# Altium schematic symbol library Lib_001.SchLib: 489 symbols (part 4 of 4)
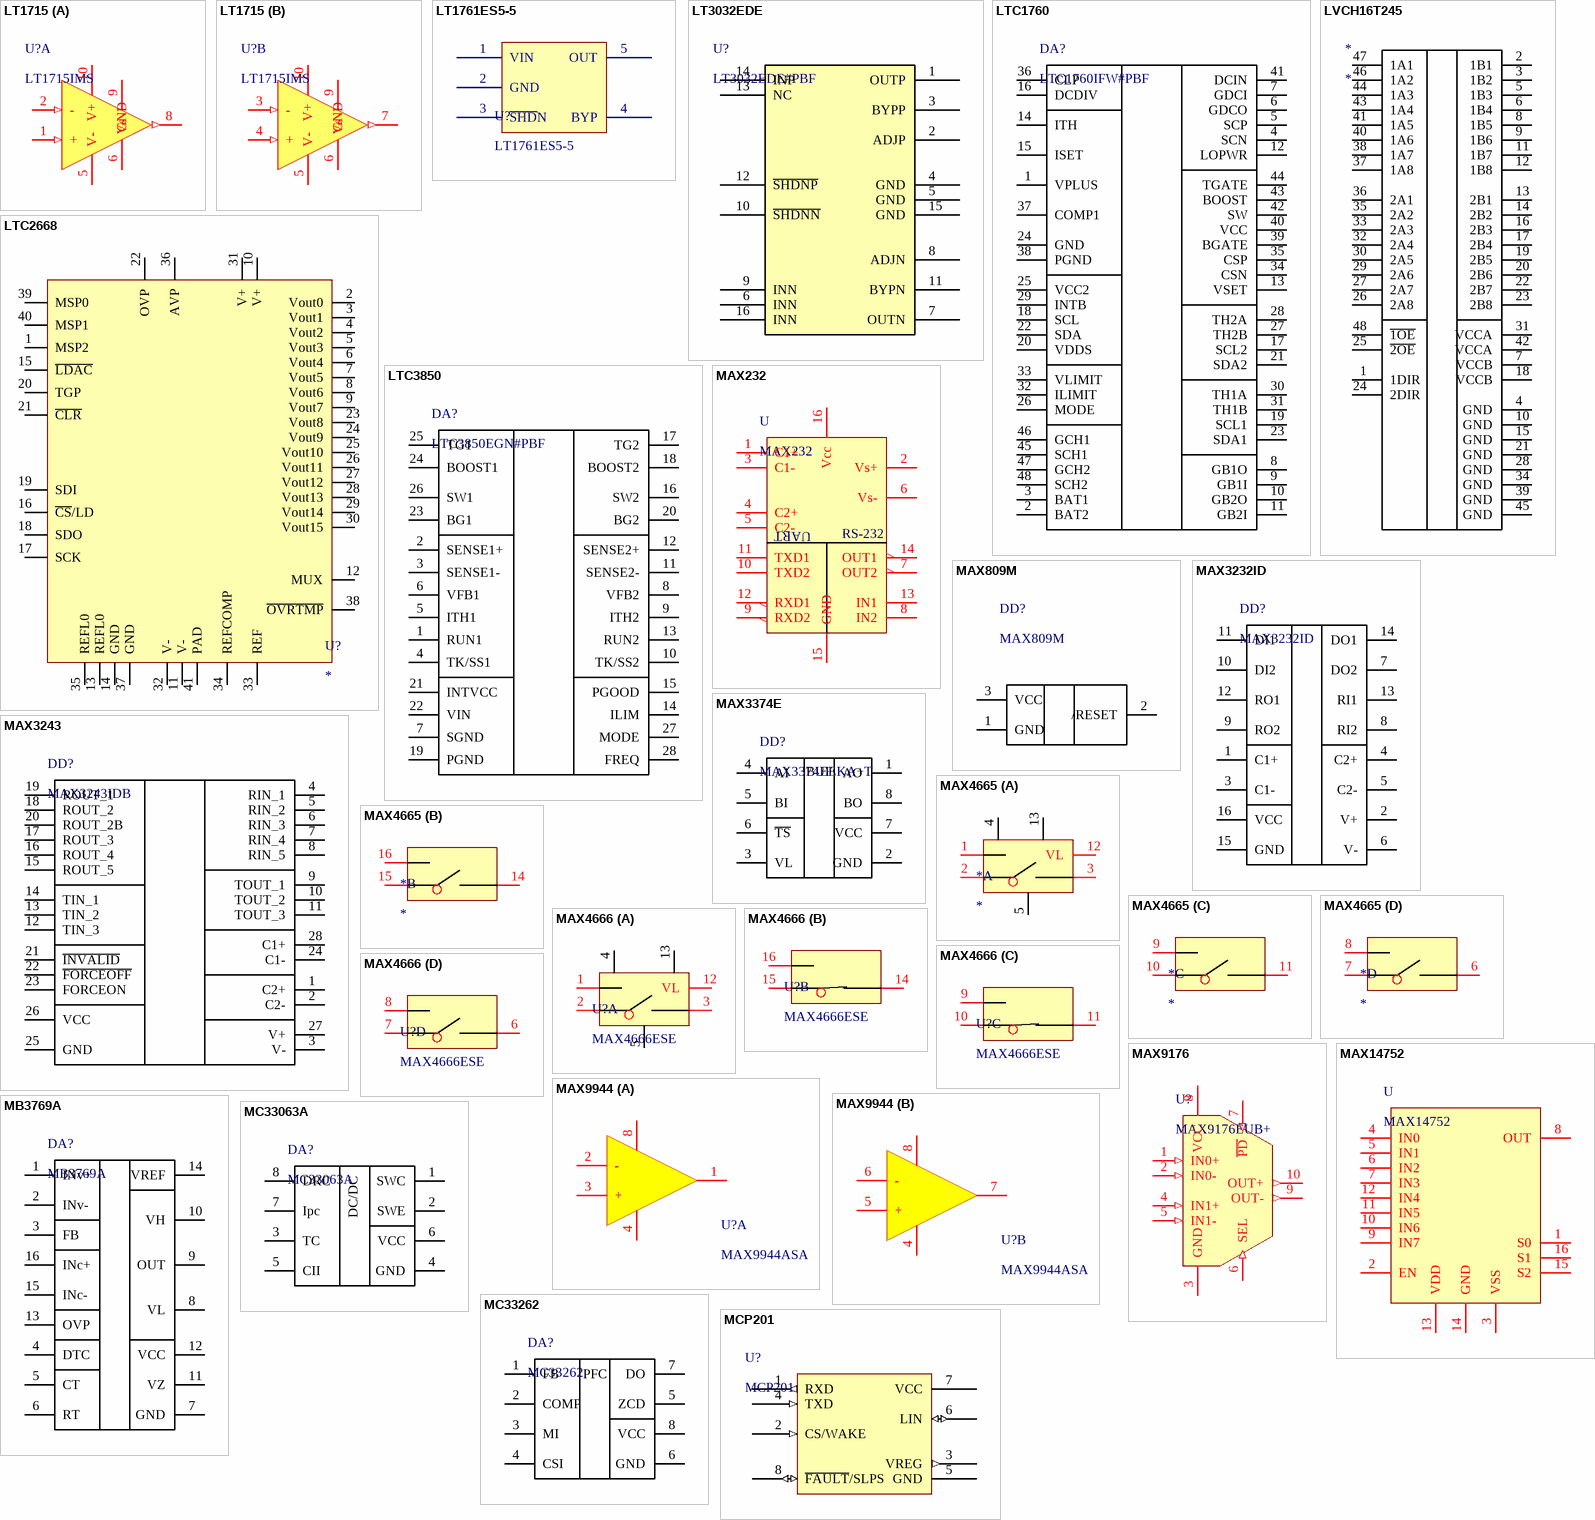
[diagram p39: symbols LT1715 to MCP201]

## MAX3374E
designator DD?, comment MAX3374EEKA+T
value: MAX3374EEKA+T
footprint SOT23-8 (Footprint not found)
pins: 1 AO, 2 GND, 3 VL, 4 AI, 5 BI, 6 ~{TS}, 7 VCC, 8 BO
text: BUF

## MAX4665
designator *
part A pins: 1 IN1, 2 COM1, 3 NO1, 4 V-, 5 GND, 12 VL, 13 V+
part B pins: 14 NO2, 15 COM2, 16 IN2
part C pins: 9 IN3, 10 COM3, 11 NO3
part D pins: 6 NO4, 7 COM4, 8 IN4

## MAX4666
designator U?, comment MAX4666ESE
5  Om  , Quad, SPST,  CMOS Analog Switches; value: MAX4666ESE
footprint SO16
part A pins: 1 IN1, 2 COM1, 3 NO1, 4 V-, 5 GND, 12 VL, 13 V+
part B pins: 14 NO2, 15 COM2, 16 IN2
part C pins: 9 IN3, 10 COM3, 11 NO3
part D pins: 6 NO4, 7 COM4, 8 IN4

## MAX9176
designator U?, comment MAX9176EUB+
670MHz LVDS-to-LVDS 2:1 Multiplexer; value: MAX9176EUB+
footprint uSOP 10
pins: 1 IN0+ (in), 2 IN0- (in), 3 GND (power), 4 IN1+ (in), 5 IN1- (in), 6 SEL (in), 7 ~{PD} (in), 8 VCC (power), 9 OUT- (out), 10 OUT+ (out)

## MAX9944
designator U?, comment MAX9944ASA
SO8: MAX9944ASA
footprint SO8 (SOIC, 8-Leads, Body 4.9x3.9mm, Pitch 1.27mm, IPC Medium Density)
part A pins: 1 OUT, 2 -, 3 +, 4 Vee, 8 Vcc
part B pins: 4 Vee hidden, 4 Vee, 5 +, 6 -, 7 OUT, 8 Vcc hidden, 8 Vcc

## MAX14752
designator U
footprint TSSOP16
pins: 1 S0, 2 EN, 3 VSS, 4 IN0, 5 IN1, 6 IN2, 7 IN3, 8 OUT, 9 IN7, 10 IN6, 11 IN5, 12 IN4, 13 VDD, 14 GND, 15 S2, 16 S1

## MB3769A
designator DA?
value: MB3769A
pins: 1 INv+, 2 INv-, 3 FB, 4 DTC, 5 CT, 6 RT, 7 GND, 8 VL, 9 OUT, 10 VH, 11 VZ, 12 VCC, 13 OVP, 14 VREF, 15 INc-, 16 INc+

## MC33063A
designator DA?
Step-Up/Down/  Inverting Switching  Regulators; value: MC33063A
footprint DIP8_300mil
footprint SOIC8
pins: 1 SWC, 2 SWE, 3 TC, 4 GND, 5 CII, 6 VCC, 7 Ipc, 8 DRC
text: DC/DC

## MC33262
designator DA?
Power Factor Controller; value: MC33262
footprint SO8 (SOIC, 8-Leads, Body 4.9x3.9mm, Pitch 1.27mm, IPC Medium Density)
pins: 1 FB, 2 COMP, 3 MI, 4 CSI, 5 ZCD, 6 GND, 7 DO, 8 VCC
text: PFC

## MCP201
designator U?
LIN Transceiver; value: MCP201
footprint SOIC8
pins: 1 RXD (out), 2 CS/WAKE (in), 3 VREG (out), 4 TXD (in), 5 GND, 6 LIN (io), 7 VCC, 8 ~{FAULT}/SLPS (io)

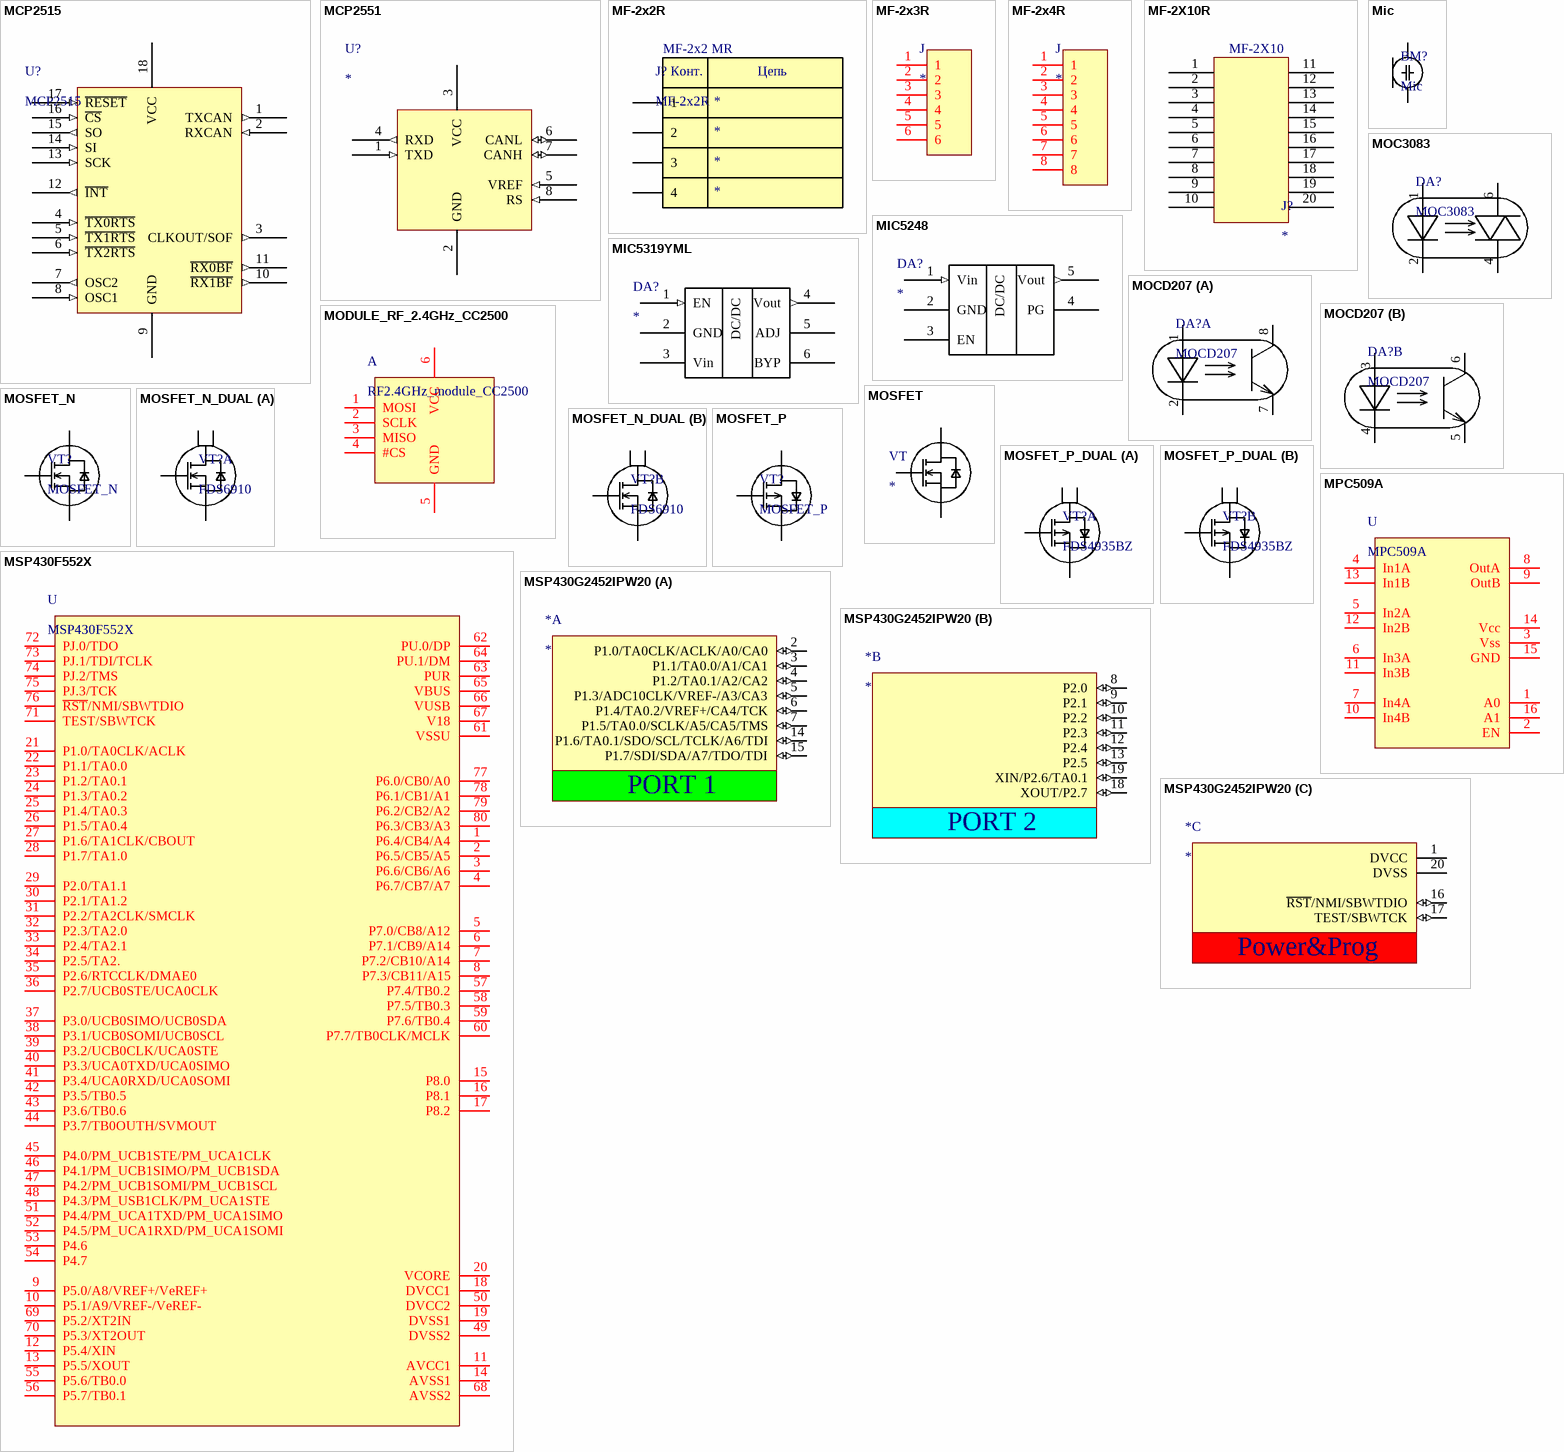
[diagram p27: symbols MCP2515 to MSP430G2452IPW20]

## MCP2515
designator U?
CAN controller; value: MCP2515
footprint TSSOP-20EP (TSSOP-20 with Exposed Pad)
pins: 1 TXCAN (out), 2 RXCAN (in), 3 CLKOUT/SOF (out), 4 ~{TX0RTS} (in), 5 ~{TX1RTS} (in), 6 ~{TX2RTS} (in), 7 OSC2 (out), 8 OSC1 (in), 9 GND (power), 10 ~{RX1BF} (out), 11 ~{RX0BF} (out), 12 ~{INT} (out), 13 SCK (in), 14 SI (in), 15 SO (out), 16 ~{CS} (in), 17 ~{RESET} (in), 18 VCC (power)

## MCP2551
designator U?
High-Speed CAN  Transceiver; value: MCP2551
footprint SOIC8
pins: 1 TXD (in), 2 GND (power), 3 VCC (power), 4 RXD (out), 5 VREF (in), 6 CANL (io), 7 CANH (io), 8 RS (in)

## MF-2x2R
designator J?
Name1: *; Name2: *; Name3: *; Name4: *
footprint MF4-MR
pins: 1, 2, 3, 4
text: MF-2x2 MR; Конт.; Цепь

## MF-2x3R
designator J
pins: 1, 2, 3, 4, 5, 6

## MF-2x4R
designator J
footprint MF8-MR
pins: 1, 2, 3, 4, 5, 6, 7, 8

## MF-2X10R
designator J?
footprint MF20-MR
pins: 1, 2, 3, 4, 5, 6, 7, 8, 9, 10, 11, 12, 13, 14, 15, 16, 17, 18, 19, 20
text: MF-2X10

## Mic
designator BM?
Microphone; value: Mic
footprint Mic (Microphone)
pins: 1, 2

## MIC5248
designator DA?
pins: 1 Vin (in), 2 GND (power), 3 EN, 4 PG, 5 Vout (out)
text: DC/DC

## MIC5319YML
designator DA?
packeg MLF 6pin
pins: 1 EN (in), 2 GND (power), 3 Vin, 4 Vout (out), 5 ADJ, 6 BYP
text: DC/DC

## MOC3083
designator DA?
Zero-Cross  Optoisolators  Triac  Driver  Output; value: MOC3083
pins: 1 +, 2 -, 4 OUT, 6 OUT

## MOCD207
designator DA?
value: MOCD207
footprint SOIC8
part A pins: 1 +, 2 -, 7 E, 8 C
part B pins: 3 +, 4 -, 5 E, 6 C

## MODULE_RF_2.4GHz_CC2500
designator A, comment RF2.4GHz_module_CC2500
footprint MODULE_RF2.4GHz_CC2500
pins: 1 MOSI, 2 SCLK, 3 MISO, 4 #CS, 5 GND, 6 VCC

## MOSFET
designator VT
footprint D2PAK (D2-PAK, 4-Leads, Body 8.8x10.4mm, Pitch 2.54mm, Lead Span 15.1mm, IPC Low Density)
pins: 1 G, 2 D, 3 S

## MOSFET_N
designator VT?
value: MOSFET_N
footprint SOT-23
footprint D2PAK (TO-263) 7-Lead MOSFET
footprint КТ-99-1 (4601.3-1)
pins: 1 G, 2 S, 3 D

## MOSFET_N_DUAL
designator VT?, comment FDS6910
MOSFET_N_DUAL; value: FDS6910
footprint SO8 (SOIC, 8-Leads, Body 4.9x3.9mm, Pitch 1.27mm, IPC Medium Density)
part A pins: 3 S, 4 G, 5 D, 6 D
part B pins: 1 S, 2 G, 7 D, 8 D

## MOSFET_P
designator VT?
value: MOSFET_P
footprint SOT-23
footprint D2PAK (TO-263) 7-Lead MOSFET
pins: 1 G, 2 S, 3 D

## MOSFET_P_DUAL
designator VT?, comment FDS4935BZ
MOSFET_P_DUAL; value: FDS4935BZ
footprint SO8 (SOIC, 8-Leads, Body 4.9x3.9mm, Pitch 1.27mm, IPC Medium Density)
part A pins: 3 S, 4 G, 5 D, 6 D
part B pins: 1 S, 2 G, 7 D, 8 D

## MPC509A
designator U
footprint SOIC16
pins: 1 A0, 2 EN, 3 Vss, 4 In1A, 5 In2A, 6 In3A, 7 In4A, 8 OutA, 9 OutB, 10 In4B, 11 In3B, 12 In2B, 13 In1B, 14 Vcc, 15 GND, 16 A1

## MSP430F552X
designator U
pins: 1 P6.4/CB4/A4, 2 P6.5/CB5/A5, 3 P6.6/CB6/A6, 4 P6.7/CB7/A7, 5 P7.0/CB8/A12, 6 P7.1/CB9/A14, 7 P7.2/CB10/A14, 8 P7.3/CB11/A15, 9 P5.0/A8/VREF+/VeREF+, 10 P5.1/A9/VREF-/VeREF-, 11 AVCC1, 12 P5.4/XIN, 13 P5.5/XOUT, 14 AVSS1, 15 P8.0, 16 P8.1, 17 P8.2, 18 DVCC1, 19 DVSS1, 20 VCORE, 21 P1.0/TA0CLK/ACLK, 22 P1.1/TA0.0, 23 P1.2/TA0.1, 24 P1.3/TA0.2, 25 P1.4/TA0.3, 26 P1.5/TA0.4, 27 P1.6/TA1CLK/CBOUT, 28 P1.7/TA1.0, 29 P2.0/TA1.1, 30 P2.1/TA1.2, 31 P2.2/TA2CLK/SMCLK, 32 P2.3/TA2.0, 33 P2.4/TA2.1, 34 P2.5/TA2., 35 P2.6/RTCCLK/DMAE0, 36 P2.7/UCB0STE/UCA0CLK, 37 P3.0/UCB0SIMO/UCB0SDA, 38 P3.1/UCB0SOMI/UCB0SCL, 39 P3.2/UCB0CLK/UCA0STE, 40 P3.3/UCA0TXD/UCA0SIMO, 41 P3.4/UCA0RXD/UCA0SOMI, 42 P3.5/TB0.5, 43 P3.6/TB0.6, 44 P3.7/TB0OUTH/SVMOUT, 45 P4.0/PM_UCB1STE/PM_UCA1CLK, 46 P4.1/PM_UCB1SIMO/PM_UCB1SDA, 47 P4.2/PM_UCB1SOMI/PM_UCB1SCL, 48 P4.3/PM_USB1CLK/PM_UCA1STE, 49 DVSS2, 50 DVCC2, 51 P4.4/PM_UCA1TXD/PM_UCA1SIMO, 52 P4.5/PM_UCA1RXD/PM_UCA1SOMI, 53 P4.6, 54 P4.7, 55 P5.6/TB0.0, 56 P5.7/TB0.1, 57 P7.4/TB0.2, 58 P7.5/TB0.3, 59 P7.6/TB0.4, 60 P7.7/TB0CLK/MCLK, 61 VSSU, 62 PU.0/DP, 63 PUR, 64 PU.1/DM, 65 VBUS, 66 VUSB, 67 V18, 68 AVSS2, 69 P5.2/XT2IN, 70 P5.3/XT2OUT, 71 TEST/SBWTCK, 72 PJ.0/TDO, 73 PJ.1/TDI/TCLK, 74 PJ.2/TMS, 75 PJ.3/TCK, 76 ~{RST}/NMI/SBWTDIO, 77 P6.0/CB0/A0, 78 P6.1/CB1/A1, 79 P6.2/CB2/A2, 80 P6.3/CB3/A3

## MSP430G2452IPW20
designator *
part A pins: 2 P1.0/TA0CLK/ACLK/A0/CA0 (io), 3 P1.1/TA0.0/A1/CA1 (io), 4 P1.2/TA0.1/A2/CA2 (io), 5 P1.3/ADC10CLK/VREF-/A3/CA3 (io), 6 P1.4/TA0.2/VREF+/CA4/TCK (io), 7 P1.5/TA0.0/SCLK/A5/CA5/TMS (io), 14 P1.6/TA0.1/SDO/SCL/TCLK/A6/TDI (io), 15 P1.7/SDI/SDA/A7/TDO/TDI (io)
part B pins: 8 P2.0 (io), 9 P2.1 (io), 10 P2.2 (io), 11 P2.3 (io), 12 P2.4 (io), 13 P2.5 (io), 18 XOUT/P2.7 (io), 19 XIN/P2.6/TA0.1 (io)
part C pins: 1 DVCC (power), 16 ~{RST}/NMI/SBWTDIO (io), 17 TEST/SBWTCK (io), 20 DVSS (power)
part A text: PORT 1
part B text: PORT 2
part C text: Power&Prog

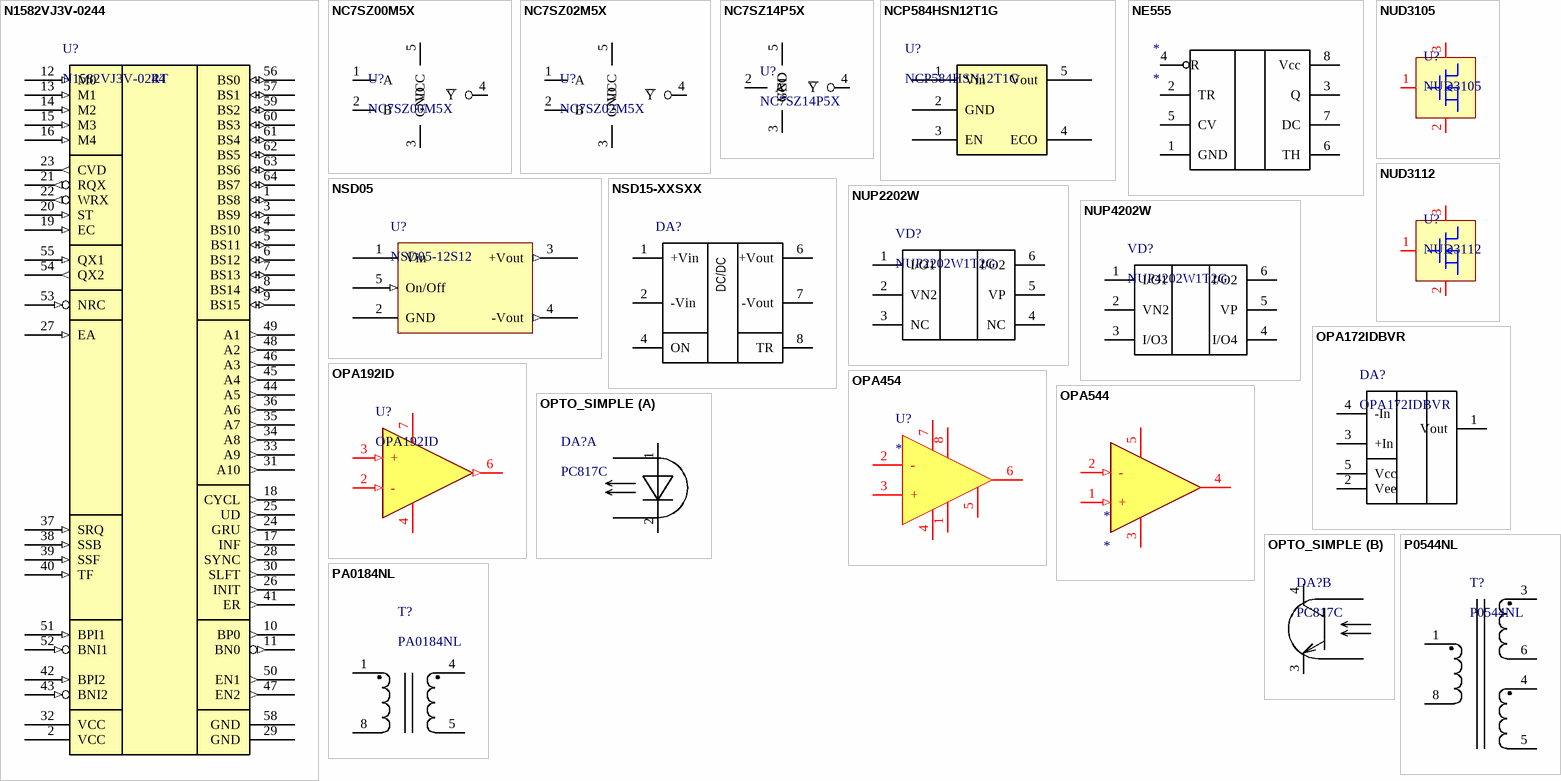
[diagram p28: symbols N1582VJ3V-0244 to PA0184NL]

## N1582VJ3V-0244
designator U?
value: N1582VJ3V-0244
footprint Н18.64  -  2В
pins: 1 BS8 (io), 2 VCC, 3 BS9 (io), 4 BS10 (io), 5 BS11 (io), 6 BS12 (io), 7 BS13 (io), 8 BS14 (io), 9 BS15 (io), 10 BP0 (out), 11 BN0 (out), 12 M0 (in), 13 M1 (in), 14 M2 (in), 15 M3 (in), 16 M4 (in), 17 INF (out), 18 CYCL (out), 19 EC (in), 20 ST (in), 21 RQX (out), 22 WRX (out), 23 CVD (out), 24 GRU (out), 25 UD (out), 26 INIT (out), 27 EA (in), 28 SYNC (out), 29 GND, 30 SLFT (out), 31 A10 (out), 32 VCC, 33 A9 (out), 34 A8 (out), 35 A7 (out), 36 A6 (out), 37 SRQ (in), 38 SSB (in), 39 SSF (in), 40 TF (in), 41 ER (out), 42 BPI2 (in), 43 BNI2 (in), 44 A5 (out), 45 A4 (out), 46 A3 (out), 47 EN2 (out), 48 A2 (out), 49 A1 (out), 50 EN1 (out), 51 BPI1 (in), 52 BNI1 (in), 53 NRC (in), 54 QX2 (out), 55 QX1 (in), 56 BS0 (io), 57 BS1 (io), 58 GND, 59 BS2 (io), 60 BS3 (io), 61 BS4 (io), 62 BS5 (io), 63 BS6 (io), 64 BS7 (io)
text: RT

## NC7SZ00M5X
designator U?
value: NC7SZ00M5X
footprint SOT-23-5 (SOT-23 5pin)
pins: 1 A, 2 B, 3 GND, 4 ~{Y}, 5 VCC

## NC7SZ02M5X
designator U?
value: NC7SZ02M5X
footprint SOT-23-5 (SOT-23 5pin)
pins: 1 A, 2 B, 3 GND, 4 ~{Y}, 5 VCC

## NC7SZ14P5X
designator U?
value: NC7SZ14P5X
footprint SOT-23-5 (SOT-23 5pin)
pins: 2 A, 3 GND, 4 ~{Y}, 5 VCC

## NCP584HSN12T1G
designator U?
Tri-Mode 200 mA CMOS  LDO Regulator with Enable; value: NCP584HSN12T1G
footprint SOT-23-5 (SOT-23 5pin)
pins: 1 Vin (power), 2 GND (power), 3 EN (power), 4 ECO (power), 5 Vout (power)

## NE555
designator *
pins: 1 GND, 2 TR, 3 Q, 4 R, 5 CV, 6 TH, 7 DC, 8 Vcc

## NSD05
designator U?, comment NSD05-12S12
DC / DC isolated; value: NSD05-12S12
pins: 1 Vin (power), 2 GND, 3 +Vout (out), 4 -Vout (out), 5 On/Off (in)

## NSD15-XXSXX
designator DA?
DC/DC Converters NSD15-S Series, 15 Watt; rus_value: NSD15-48S5
footprint NSD15-48S5 (MeanWell)
pins: 1 +Vin, 2 -Vin, 4 ON, 6 +Vout, 7 -Vout, 8 TR
text: DC/DC

## NUD3105
designator U?
footprint SOT-23
pins: 1 G, 2 S, 3 D

## NUD3112
designator U?
footprint SOT-23
pins: 1 G, 2 S, 3 D

## NUP2202W
designator VD?, comment NUP2202W1T2G
ESD suppressor; value: NUP2202W1T2G
footprint SC-88 (Footprint not found)
pins: 1 I/O1, 2 VN2, 3 NC, 4 NC, 5 VP, 6 I/O2

## NUP4202W
designator VD?, comment NUP4202W1T2G
ESD suppressor; value: NUP4202W1T2G
footprint SC-88 (Footprint not found)
pins: 1 I/O1, 2 VN2, 3 I/O3, 4 I/O4, 5 VP, 6 I/O2

## OPA172IDBVR
designator DA?
value: OPA172IDBVR; rus_value: *
footprint SOT-23-5 (SOT-23 5pin)
pins: 1 Vout, 2 Vee, 3 +In, 4 -In, 5 Vcc

## OPA192ID
designator U?
High  Voltage,  Rail-to-Rail  Input/Output; value: OPA192ID
footprint SOIC8
pins: 2 - (in), 3 + (in), 4 V- (power), 6 Vo (out), 7 V+ (power)

## OPA454
designator U?
footprint PSOP-8 (SOP, 8-Leads, Body 6x4.7mm, Pitch 1.27mm, IPC Medium Density)
pins: 1 E/D_C, 2 -, 3 +, 4 V-, 5 SF, 6 Out, 7 V+, 8 E/D

## OPA544
designator *
footprint TO-263(DDPAK)
pins: 1 + (in), 2 - (in), 3 V- (power), 4 Vo (power), 5 V+ (power)

## OPTO_SIMPLE
designator DA?, comment PC817C
value: PC817C
footprint dip4
part A pins: 1 +, 2 -
part B pins: 3 E, 4 C

## P0544NL
designator T?
value: P0544NL
footprint P0544NL (SMT Gate Drive Transformers)
pins: 1, 3, 4, 5, 6, 8

## PA0184NL
designator T?
value: PA0184NL
footprint P0544NL (SMT Gate Drive Transformers)
pins: 1, 4, 5, 8

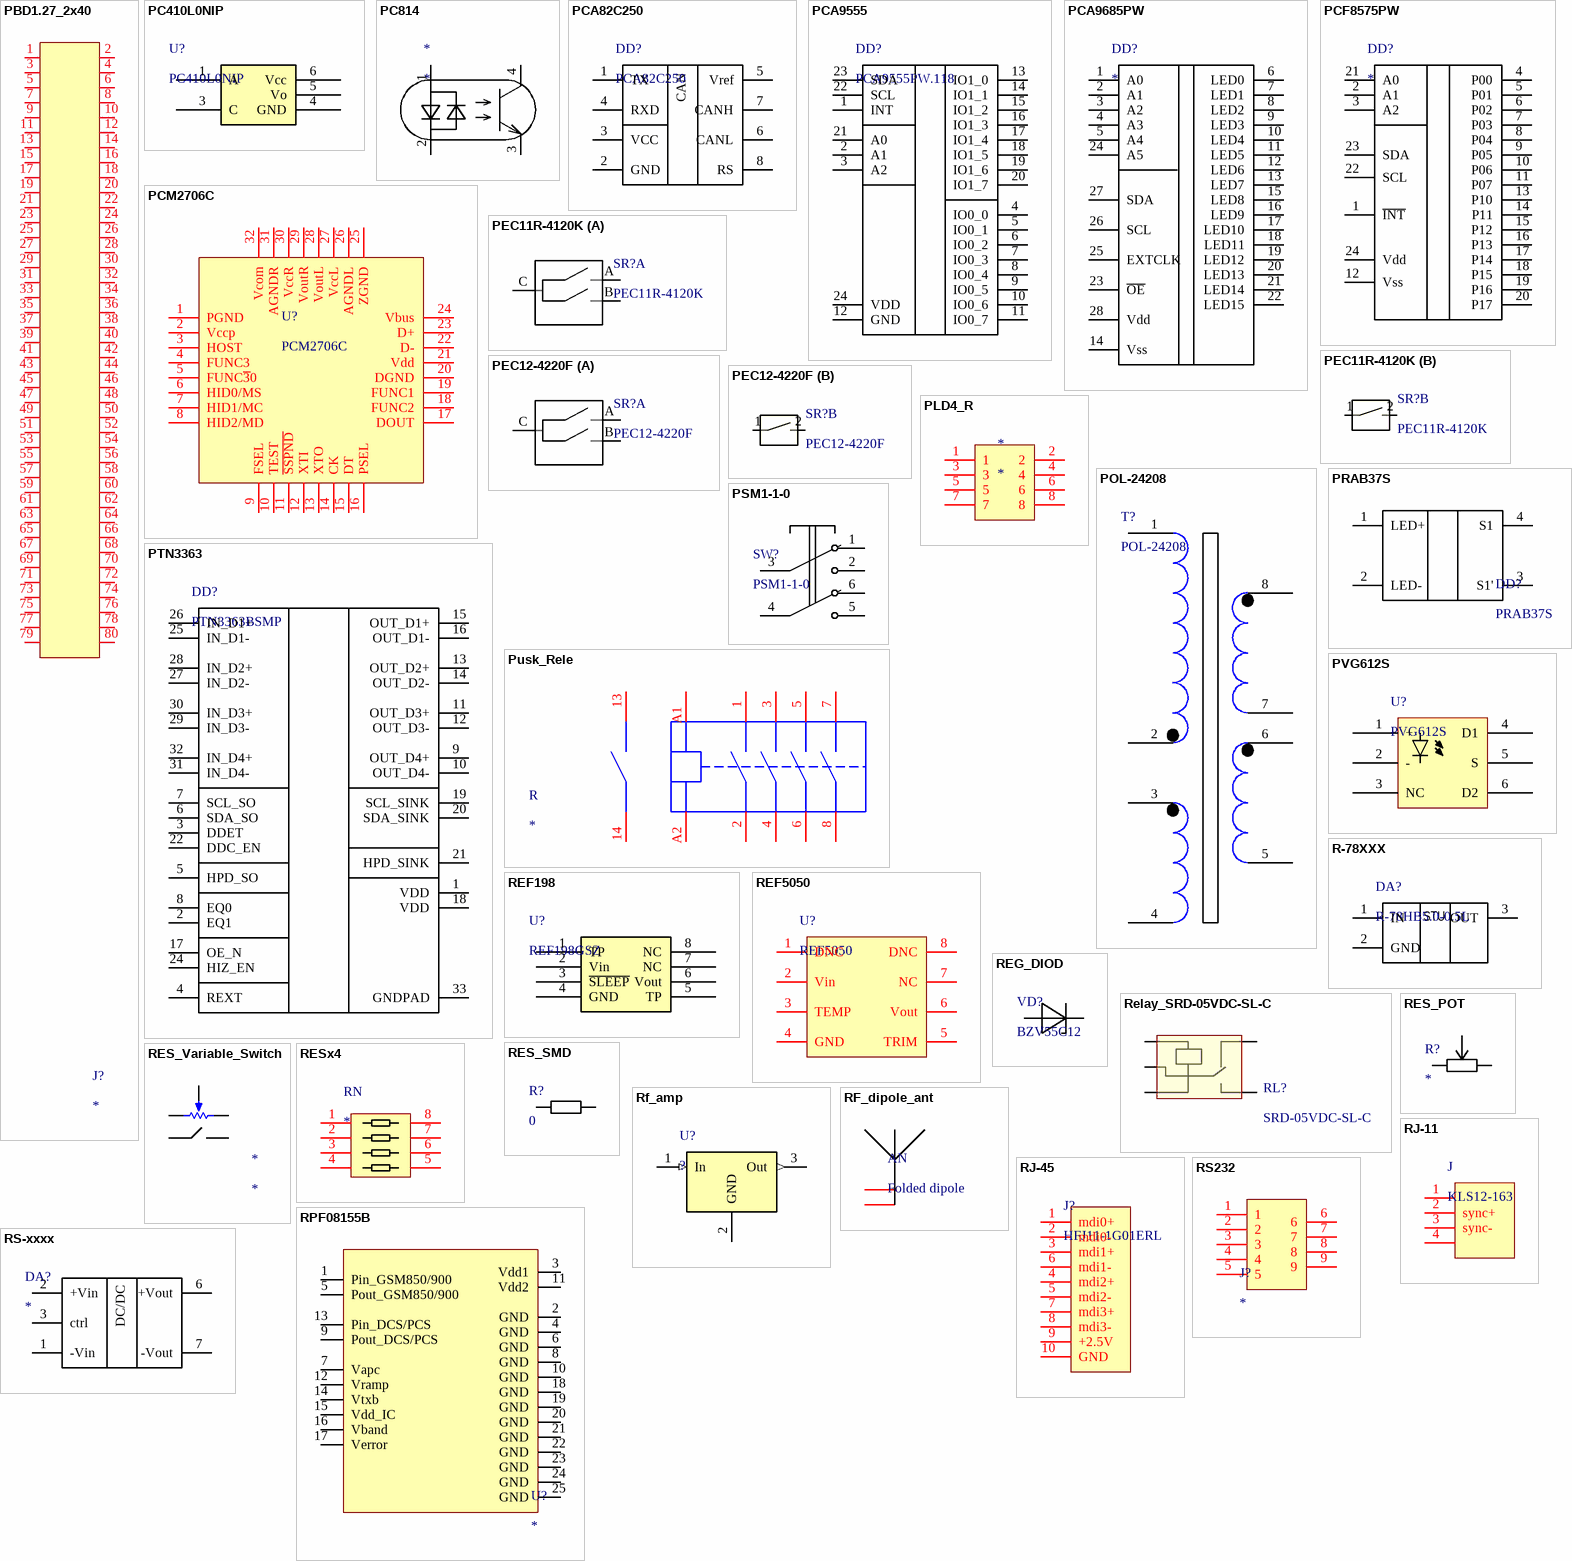
[diagram p29: symbols PBD1.27_2х40 to RS-xxxx]

## PBD1.27_2х40
designator J?
footprint PBD1.27_2х40
pins: 1, 2, 3, 4, 5, 6, 7, 8, 9, 10, 11, 12, 13, 14, 15, 16, 17, 18, 19, 20, 21, 22, 23, 24, 25, 26, 27, 28, 29, 30, 31, 32, 33, 34, 35, 36, 37, 38, 39, 40, 41, 42, 43, 44, 45, 46, 47, 48, 49, 50, 51, 52, 53, 54, 55, 56, 57, 58, 59, 60, 61, 62, 63, 64, 65, 66, 67, 68, 69, 70, 71, 72, 73, 74, 75, 76, 77, 78, 79, 80

## PC410L0NIP
designator U?
value: PC410L0NIP
footprint SOIC5
pins: 1 A, 3 C, 4 GND (power), 5 Vo, 6 Vcc (power)

## PC814
designator *
оптрон
pins: 1 +, 2 -, 3 E, 4 C

## PCA82C250
designator DD?
value: PCA82C250
footprint SOIC8
pins: 1 TX, 2 GND (power), 3 VCC (power), 4 RXD, 5 Vref, 6 CANL, 7 CANH, 8 RS
text: CAN

## PCA9555
designator DD?, comment PCA9555PW.118
16-bit I2C-bus and SMBus I/O port with interrupt; value: PCA9555PW.118
footprint TSSOP-24
pins: 1 INT, 2 A1, 3 A2, 4 IO0_0, 5 IO0_1, 6 IO0_2, 7 IO0_3, 8 IO0_4, 9 IO0_5, 10 IO0_6, 11 IO0_7, 12 GND, 13 IO1_0, 14 IO1_1, 15 IO1_2, 16 IO1_3, 17 IO1_4, 18 IO1_5, 19 IO1_6, 20 IO1_7, 21 A0, 22 SCL, 23 SDA, 24 VDD

## PCA9685PW
designator DD?
16-channel, 12bit PWM Fm+I2C-bus LED controller; value: PCA9685PW
footprint TSSOP28
pins: 1 A0, 2 A1, 3 A2, 4 A3, 5 A4 (power), 6 LED0, 7 LED1, 8 LED2, 9 LED3, 10 LED4, 11 LED5, 12 LED6, 13 LED7, 14 Vss (power), 15 LED8, 16 LED9, 17 LED10, 18 LED11, 19 LED12, 20 LED13, 21 LED14, 22 LED15, 23 ~{OE} (power), 24 A5 (power), 25 EXTCLK (power), 26 SCL (power), 27 SDA (power), 28 Vdd (power)

## PCF8575PW
designator DD?
Remote 16-bit I/O expander for I2C-bus
pins: 1 ~{INT} (power), 2 A1, 3 A2, 4 P00, 5 P01, 6 P02, 7 P03, 8 P04, 9 P05, 10 P06, 11 P07, 12 Vss (power), 13 P10, 14 P11, 15 P12, 16 P13, 17 P14, 18 P15, 19 P16, 20 P17, 21 A0, 22 SCL (power), 23 SDA (power), 24 Vdd (power)

## PCM2706C
designator U?
footprint TQFP32
pins: 1 PGND, 2 Vccp, 3 HOST, 4 FUNC3, 5 FUNC~{3}0, 6 HID0/MS, 7 HID1/MC, 8 HID2/MD, 9 FSEL, 10 TEST, 11 ~{SSPND}, 12 XTI, 13 XTO, 14 CK, 15 DT, 16 PSEL, 17 DOUT, 18 FUNC2, 19 FUNC1, 20 DGND, 21 Vdd, 22 D-, 23 D+, 24 Vbus, 25 ZGND, 26 AGNDL, 27 VccL, 28 VoutL, 29 VoutR, 30 VccR, 31 AGNDR, 32 Vcom

## PEC11R-4120K
designator SR?
footprint PEC11R-4120K
part A pins: A 3, B 5, C 4
part B pins: 1, 2

## PEC12-4220F
designator SR?
part A pins: A 3, B 5, C 4
part B pins: 1, 2

## PLD4_R
designator *
footprint PLD4_R
pins: 1, 2, 3, 4, 5, 6, 7, 8

## POL-24208
designator T?
20W 24V/24V Transformer; value: POL-24208
pins: 1, 2, 3, 4, 5, 6, 7, 8

## PRAB37S
designator DD?
footprint SOP-4 (Footprint not found)
pins: 1 LED+, 2 LED-, 3 S1', 4 S1

## PSM1-1-0
designator SW?
value: PSM1-1-0
footprint PSM1
pins: 1, 2, 3, 4, 5, 6

## PTN3363
designator DD?, comment PTN3363BSMP
value: PTN3363BSMP
footprint HVQFN32 (Footprint not found)
pins: 1 VDD, 2 EQ1, 3 DDET, 4 REXT, 5 HPD_SO, 6 SDA_SO, 7 SCL_SO, 8 EQ0, 9 OUT_D4+, 10 OUT_D4-, 11 OUT_D3+, 12 OUT_D3-, 13 OUT_D2+, 14 OUT_D2-, 15 OUT_D1+, 16 OUT_D1-, 17 OE_N, 18 VDD, 19 SCL_SINK, 20 SDA_SINK, 21 HPD_SINK, 22 DDC_EN, 24 HIZ_EN, 25 IN_D1-, 26 IN_D1+, 27 IN_D2-, 28 IN_D2+, 29 IN_D3-, 30 IN_D3+, 31 IN_D4-, 32 IN_D4+, 33 GNDPAD

## Pusk_Rele
designator R
pins: 1, 2, 3, 4, 5, 6, 7, 8, 13, 14, A1, A2

## PVG612S
designator U?
value: PVG612S
footprint SMT-6
pins: 1 +, 2 -, 3 NC, 4 D1, 5 S, 6 D2

## R-78XXX
designator DA?, comment R-78HB5.0-0.5L
DC-DC RECOM Electronic; value: R-78HB5.0-0.5L; value1: R-78HB5.0-0.5L
footprint R-78XXX
pins: 1 IN, 2 GND, 3 OUT
text: STU

## REF198
designator U?, comment REF198GSZ
value: REF198GSZ
footprint SOIC8
pins: 1 TP, 2 Vin, 3 ~{SLEEP}, 4 GND, 5 TP, 6 Vout, 7 NC, 8 NC

## REF5050
designator U?
footprint PSOP8 (SOP, 8-Leads, Body 6x4.7mm, Pitch 1.27mm, IPC Medium Density)
pins: 1 DNC, 2 Vin, 3 TEMP, 4 GND, 5 TRIM, 6 Vout, 7 NC, 8 DNC

## REG_DIOD
designator VD?, comment BZV55C12
value: BZV55C12
footprint SOT-23_diode
footprint SMA DIOD
footprint DO-214AA
footprint DO-214AB(SMC)
pins: A, K

## Relay_SRD-05VDC-SL-C
designator RL?, comment SRD-05VDC-SL-C
Model: SRD-05VDC-SL-C
footprint SRD-05VDC-SL-C
pins: 0, 1, 2, 3 N, 4

## RES_POT
designator R?
Подстроучный резистор; value: *
footprint PVM4
signal-integrity model Model Name (Model Description)
footprint Bourns 3266W-1-502LF
footprint Bourns 3296W-1-503LF (СП5-2ВБ)
footprint 3362P
pins: 1, 2, 3

## RES_SMD
designator R?, comment 0
Резистор; rus_value: Р1-12-0,1Вт 1К 1%; value: 0
simulation model Model Name (Model Description)
footprint SMD0805
footprint SMD1206
footprint SMD0603
pins: 1, 2

## RES_Variable_Switch
designator *
footprint RES__PTR901
pins: 1, 2, 3, SW1, SW2

## RESx4
designator RN
Value: *
footprint 4D03 (0603*4)
pins: 1, 2, 3, 4, 5, 6, 7, 8

## Rf_amp
designator U?, comment ?
value: ?
footprint SOT-89
pins: 1 In (in), 2 GND (power), 3 Out (out)

## RF_dipole_ant
designator AN, comment Folded dipole
footprint ANT_2.4_dipole
pins: 1 P, 2 N

## RJ-11
designator J, comment KLS12-163
footprint KLS12-163
pins: 1, 2 sync+, 3 sync-, 4

## RJ-45
designator J?, comment HFJ11-1G01ERL
footprint RJ-45/HALO
pins: 1 mdi0+, 2 mdi0-, 3 mdi1+, 4 mdi2+, 5 mdi2-, 6 mdi1-, 7 mdi3+, 8 mdi3-, 9 +2.5V, 10 GND

## RPF08155B
designator U?
pins: 1 Pin_GSM850/900, 2 GND, 3 Vdd1, 4 GND, 5 Pout_GSM850/900, 6 GND, 7 Vapc, 8 GND, 9 Pout_DCS/PCS, 10 GND, 11 Vdd2, 12 Vramp, 13 Pin_DCS/PCS, 14 Vtxb, 15 Vdd_IC, 16 Vband, 17 Verror, 18 GND, 19 GND, 20 GND, 21 GND, 22 GND, 23 GND, 24 GND, 25 GND

## RS232
designator J?
pins: 1, 2, 3, 4, 5, 6, 7, 8, 9

## RS-xxxx
designator DA?
pins: 1 -Vin, 2 +Vin, 3 ctrl, 6 +Vout, 7 -Vout
text: DC/DC

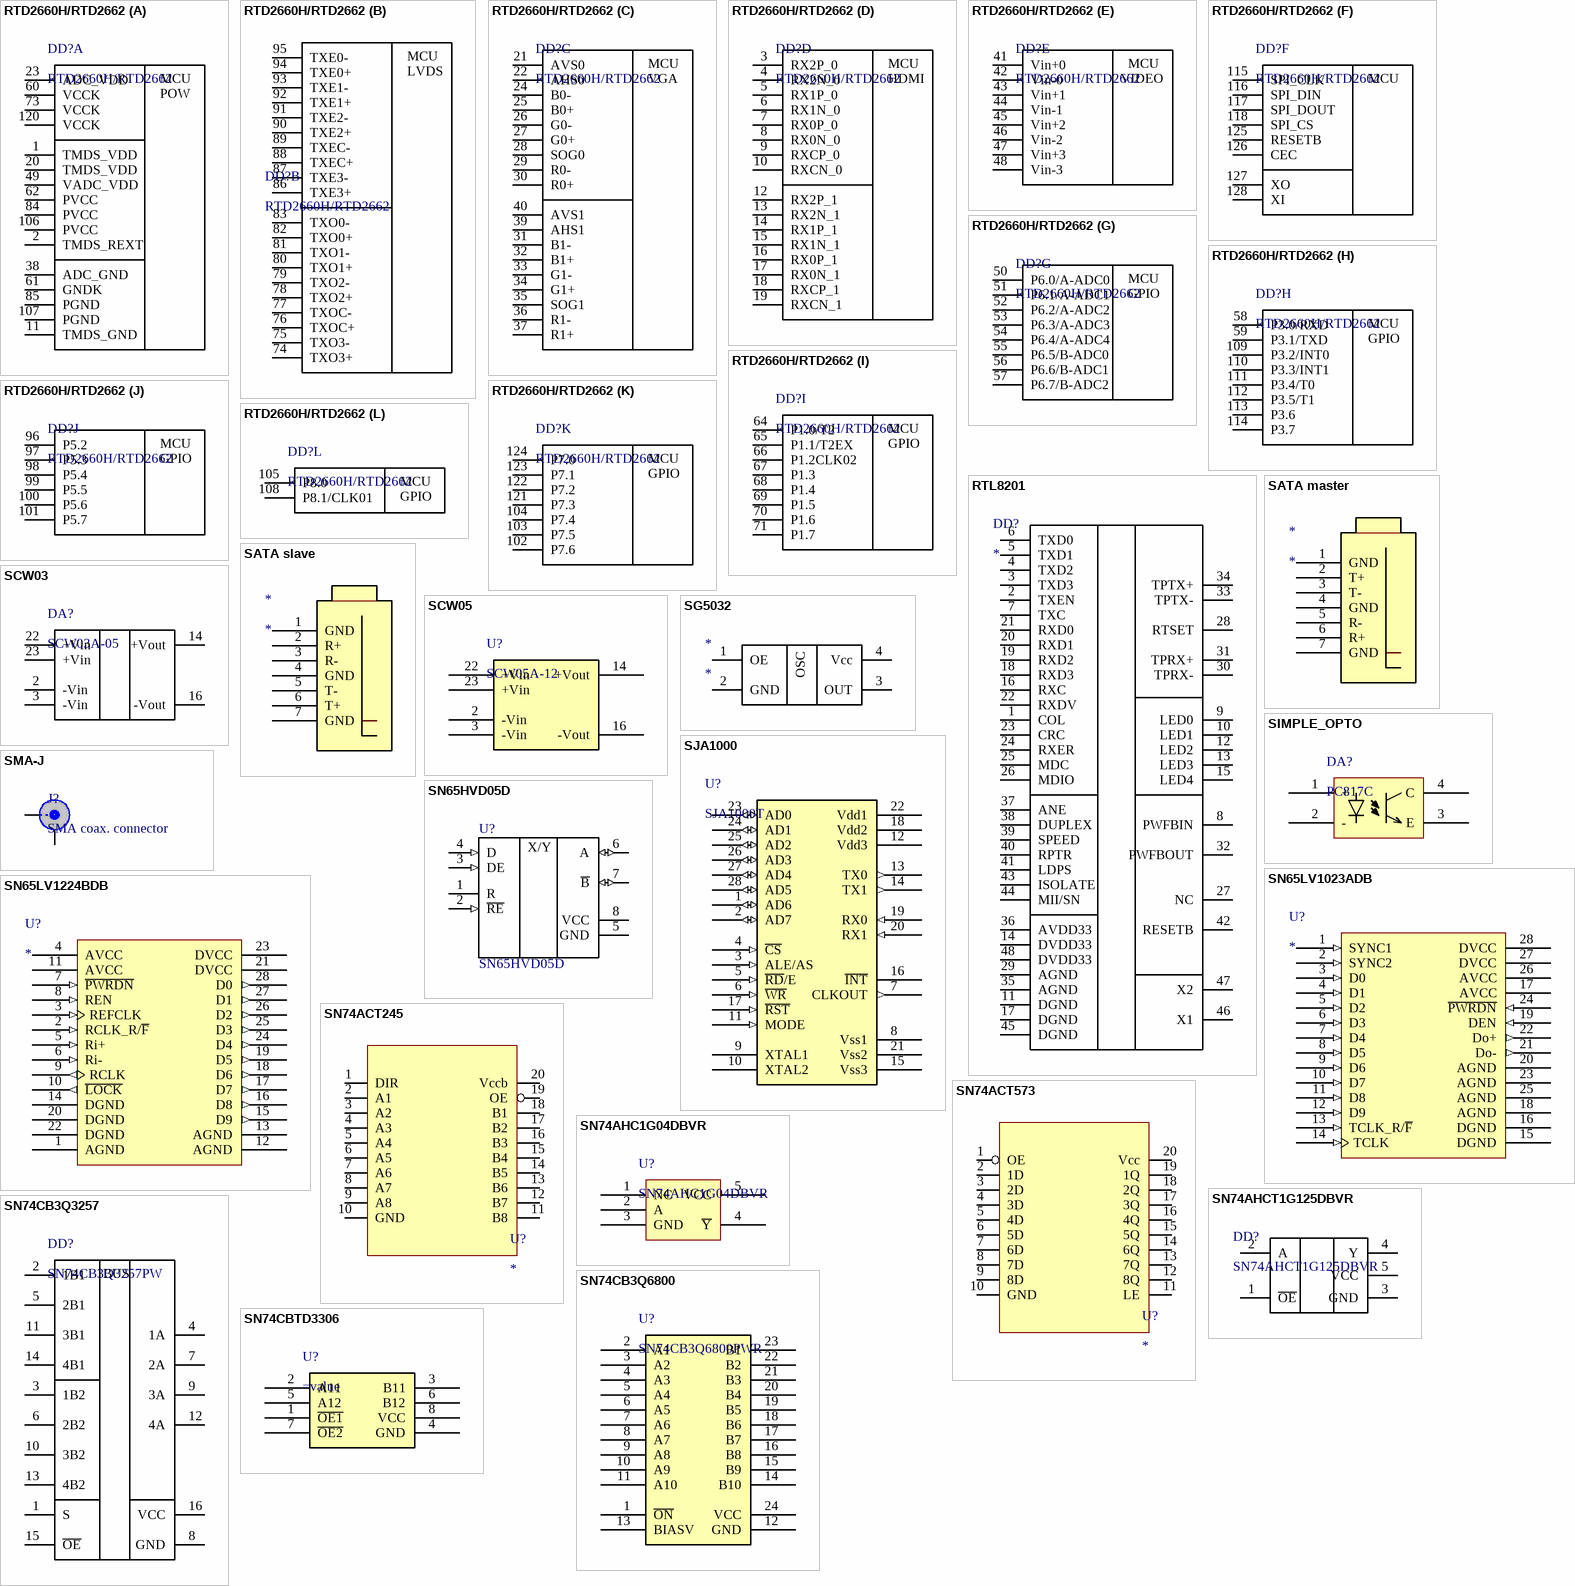
[diagram p30: symbols RTD2660Н/RTD2662 to SN74CBTD3306]

## RTD2660Н/RTD2662
designator DD?, comment RTD2660H/RTD2662
value: RTD2660H/RTD2662
part A pins: 1 TMDS_VDD, 2 TMDS_REXT, 11 TMDS_GND, 20 TMDS_VDD, 23 ADC_VDD, 38 ADC_GND, 49 VADC_VDD, 60 VCCK, 61 GNDK, 62 PVCC, 73 VCCK, 84 PVCC, 85 PGND, 106 PVCC, 107 PGND, 120 VCCK
part B pins: 74 TXO3+, 75 TXO3-, 76 TXOC+, 77 TXOC-, 78 TXO2+, 79 TXO2-, 80 TXO1+, 81 TXO1-, 82 TXO0+, 83 TXO0-, 86 TXE3+, 87 TXE3-, 88 TXEC+, 89 TXEC-, 90 TXE2+, 91 TXE2-, 92 TXE1+, 93 TXE1-, 94 TXE0+, 95 TXE0-
part C pins: 21 AVS0, 22 AHS0, 24 B0-, 25 B0+, 26 G0-, 27 G0+, 28 SOG0, 29 R0-, 30 R0+, 31 B1-, 32 B1+, 33 G1-, 34 G1+, 35 SOG1, 36 R1-, 37 R1+, 39 AHS1, 40 AVS1
part D pins: 3 RX2P_0, 4 RX2N_0, 5 RX1P_0, 6 RX1N_0, 7 RX0P_0, 8 RX0N_0, 9 RXCP_0, 10 RXCN_0, 12 RX2P_1, 13 RX2N_1, 14 RX1P_1, 15 RX1N_1, 16 RX0P_1, 17 RX0N_1, 18 RXCP_1, 19 RXCN_1
part E pins: 41 Vin+0, 42 Vin-0, 43 Vin+1, 44 Vin-1, 45 Vin+2, 46 Vin-2, 47 Vin+3, 48 Vin-3
part F pins: 115 SPI_CLK, 116 SPI_DIN, 117 SPI_DOUT, 118 SPI_CS, 125 RESETB, 126 CEC, 127 XO, 128 XI
part G pins: 50 P6.0/A-ADC0, 51 P6.1/A-ADC1, 52 P6.2/A-ADC2, 53 P6.3/A-ADC3, 54 P6.4/A-ADC4, 55 P6.5/B-ADC0, 56 P6.6/B-ADC1, 57 P6.7/B-ADC2
part H pins: 58 P3.0/RXD, 59 P3.1/TXD, 109 P3.2/INT0, 110 P3.3/INT1, 111 P3.4/T0, 112 P3.5/T1, 113 P3.6, 114 P3.7
part I pins: 64 P1.0/T2, 65 P1.1/T2EX, 66 P1.2CLK02, 67 P1.3, 68 P1.4, 69 P1.5, 70 P1.6, 71 P1.7
part J pins: 96 P5.2, 97 P5.3, 98 P5.4, 99 P5.5, 100 P5.6, 101 P5.7
part K pins: 102 P7.6, 103 P7.5, 104 P7.4, 121 P7.3, 122 P7.2, 123 P7.1, 124 P7.0
part L pins: 105 P8.0, 108 P8.1/CLK01
part A text: MCU; POW
part B text: MCU; LVDS
part C text: MCU; VGA
part D text: MCU; HDMI
part E text: MCU; VIDEO
part F text: MCU
part G text: MCU; GPIO
part H text: MCU; GPIO
part I text: MCU; GPIO
part J text: MCU; GPIO
part K text: MCU; GPIO
part L text: MCU; GPIO

## RTL8201
designator DD?
pins: 1 COL, 2 TXEN, 3 TXD3, 4 TXD2, 5 TXD1, 6 TXD0, 7 TXC, 8 PWFBIN, 9 LED0, 10 LED1, 11 DGND , 12 LED2, 13 LED3, 14 DVDD33, 15 LED4, 16 RXC, 17 DGND, 18 RXD3, 19 RXD2, 20 RXD1, 21 RXD0, 22 RXDV, 23 CRC, 24 RXER, 25 MDC, 26 MDIO, 27 NC, 28 RTSET, 29 AGND, 30 TPRX-, 31 TPRX+, 32 PWFBOUT, 33 TPTX-, 34 TPTX+, 35 AGND, 36 AVDD33, 37 ANE, 38 DUPLEX, 39 SPEED, 40 RPTR, 41 LDPS, 42 RESETB, 43 ISOLATE, 44 MII/SN, 45 DGND, 46 X1, 47 X2, 48 DVDD33

## SATA master
designator *
footprint sata
footprint SATA MOLEX 47080-4005
pins: 1 GND, 2 T+, 3 T-, 4 GND, 5 R-, 6 R+, 7 GND

## SATA slave
designator *
footprint sata
footprint SATA MOLEX 47080-4005
pins: 1 GND, 2 R+, 3 R-, 4 GND, 5 T-, 6 T+, 7 GND

## SCW03
designator DA?, comment SCW03A-05
3W DC-DC Regulated Single Output Converter; value: SCW03A-05
footprint SCW05 (5 W DC- DC Re g u l a t e d Si n g l e O u t p u t Co n v e r t e r)
pins: 2 -Vin, 3 -Vin, 14 +Vout, 16 -Vout, 22 +Vin, 23 +Vin

## SCW05
designator U?, comment SCW05A-12
5W DC-DC Regulated Single Output Converter; value: SCW05A-12
pins: 2 -Vin, 3 -Vin, 14 +Vout, 16 -Vout, 22 +Vin, 23 +Vin

## SG5032
designator *
cristal oscillator
pins: 1 OE, 2 GND, 3 OUT, 4 Vcc
text: OSC

## SIMPLE_OPTO
designator DA?, comment PC817C
value: PC817C
footprint SOIC4
pins: 1 +, 2 -, 3 E, 4 C

## SJA1000
designator U?, comment SJA1000T
value: SJA1000T
footprint SOIC28_300mil
pins: 1 AD6 (io), 2 AD7 (io), 3 ALE/AS (in), 4 ~{CS} (in), 5 ~{RD}/E (in), 6 ~{WR} (in), 7 CLKOUT (out), 8 Vss1 (power), 9 XTAL1, 10 XTAL2, 11 MODE (in), 12 Vdd3 (power), 13 TX0 (out), 14 TX1 (out), 15 Vss3 (power), 16 ~{INT} (oc), 17 ~{RST} (in), 18 Vdd2 (power), 19 RX0 (in), 20 RX1 (in), 21 Vss2 (power), 22 Vdd1 (power), 23 AD0 (io), 24 AD1 (io), 25 AD2 (io), 26 AD3 (io), 27 AD4 (io), 28 AD5 (io)

## SMA-J
designator J?, comment SMA coax. connector
footprint SMA-J (SMA coax. connector)
pins: I, SH

## SN65HVD05D
designator U?
Differential Bus Transceiver; Note: Receiver Hysteresis of 50mV Typical; Published: 15-May-2002; LatestRevisionDate: 13-Apr-2006; LatestRevisionNote: IPC-7351 Footprint Added.; DatasheetVersion: Aug-1989; PackageVersion: Jan-1998; PackageReference: D008; Publisher: Altium Limited; PackageDescription: 8-Pin Small Outline Integrated Circuit 1.27 mm Pitch; Code_IPC: SOIC127P600-8; ComponentLink1Description: Manufacturer Link; ComponentLink1URL: http://www.ti.com/; ComponentLink2Description: Datasheet; ComponentLink2URL: http://www-s.ti.com/sc/ds/sn75176a.pdf
footprint SOIC8
pins: 1 R (hiz), 2 ~{RE} (in), 3 DE (in), 4 D (in), 5 GND (power), 6 A (io), 7 ~{B} (io), 8 VCC (power)
text: X/Y

## SN65LV1023ADB
designator U?
serializer
footprint SSOP-28
pins: 1 SYNC1 (in), 2 SYNC2 (in), 3 D0 (in), 4 D1 (in), 5 D2 (in), 6 D3 (in), 7 D4 (in), 8 D5 (in), 9 D6 (in), 10 D7 (in), 11 D8 (in), 12 D9 (in), 13 TCLK_R/~{F} (in), 14 TCLK (in), 15 DGND (power), 16 DGND (power), 17 AVCC (power), 18 AGND (power), 19 DEN (in), 20 AGND (power), 21 Do- (out), 22 Do+ (out), 23 AGND (power), 24 ~{PWRDN} (in), 25 AGND (power), 26 AVCC (power), 27 DVCC (power), 28 DVCC (power)

## SN65LV1224BDB
designator U?
deserializer
footprint SSOP-28
pins: 1 AGND (power), 2 RCLK_R/~{F} (in), 3 REFCLK (in), 4 AVCC (power), 5 Ri+ (in), 6 Ri- (in), 7 ~{PWRDN} (in), 8 REN (in), 9 RCLK (out), 10 ~{LOCK} (out), 11 AVCC (power), 12 AGND (power), 13 AGND (power), 14 DGND (power), 15 D9 (out), 16 D8 (out), 17 D7 (out), 18 D6 (out), 19 D5 (out), 20 DGND (power), 21 DVCC (power), 22 DGND (power), 23 DVCC (power), 24 D4 (out), 25 D3 (out), 26 D2 (out), 27 D1 (out), 28 D0 (out)

## SN74ACT245
designator U?
pins: 1 DIR, 2 A1, 3 A2, 4 A3, 5 A4, 6 A5, 7 A6, 8 A7, 9 A8, 10 GND, 11 B8, 12 B7, 13 B6, 14 B5, 15 B4, 16 B3, 17 B2, 18 B1, 19 OE, 20 Vccb

## SN74ACT573
designator U?
pins: 1 OE, 2 1D, 3 2D, 4 3D, 5 4D, 6 5D, 7 6D, 8 7D, 9 8D, 10 GND, 11 LE, 12 8Q, 13 7Q, 14 6Q, 15 5Q, 16 4Q, 17 3Q, 18 2Q, 19 1Q, 20 Vcc

## SN74AHC1G04DBVR
designator U?
value: SN74AHC1G04DBVR
footprint SOT-23-5 (SOT-23 5pin)
pins: 1 NC, 2 A, 3 GND, 4 ~{Y}, 5 VCC

## SN74AHCT1G125DBVR
designator DD?
value: SN74AHCT1G125DBVR
footprint SOT-23-5 (SOT-23 5pin)
pins: 1 ~{OE}, 2 A, 3 GND, 4 Y, 5 VCC

## SN74CB3Q3257
designator DD?, comment SN74CB3Q3257PW
4-BIT  1-OF-2  FET  MULTIPLEXER/DEMULTIPLEXER; value: SN74CB3Q3257PW
footprint TSSOP16
pins: 1 S, 2 1B1, 3 1B2, 4 1A, 5 2B1, 6 2B2, 7 2A, 8 GND, 9 3A, 10 3B2, 11 3B1, 12 4A, 13 4B2, 14 4B1, 15 ~{OE}, 16 VCC
text: BUS

## SN74CB3Q6800
designator U?, comment SN74CB3Q6800PWR
TSSOP24: SN74CB3Q6800PWR
footprint TSSOP-24
pins: 1 ~{ON}, 2 A1, 3 A2, 4 A3, 5 A4, 6 A5, 7 A6, 8 A7, 9 A8, 10 A9, 11 A10, 12 GND, 13 BIASV, 14 B10, 15 B9, 16 B8, 17 B7, 18 B6, 19 B5, 20 B4, 21 B3, 22 B2, 23 B1, 24 VCC

## SN74CBTD3306
designator U?
SOIC8: SN74CBTD3306D; TSSOP8: SN74CBTD3306PW
footprint SOIC8
footprint TSSOP-8
pins: 1 ~{OE1}, 2 A11, 3 B11, 4 GND, 5 A12, 6 B12, 7 ~{OE2}, 8 VCC

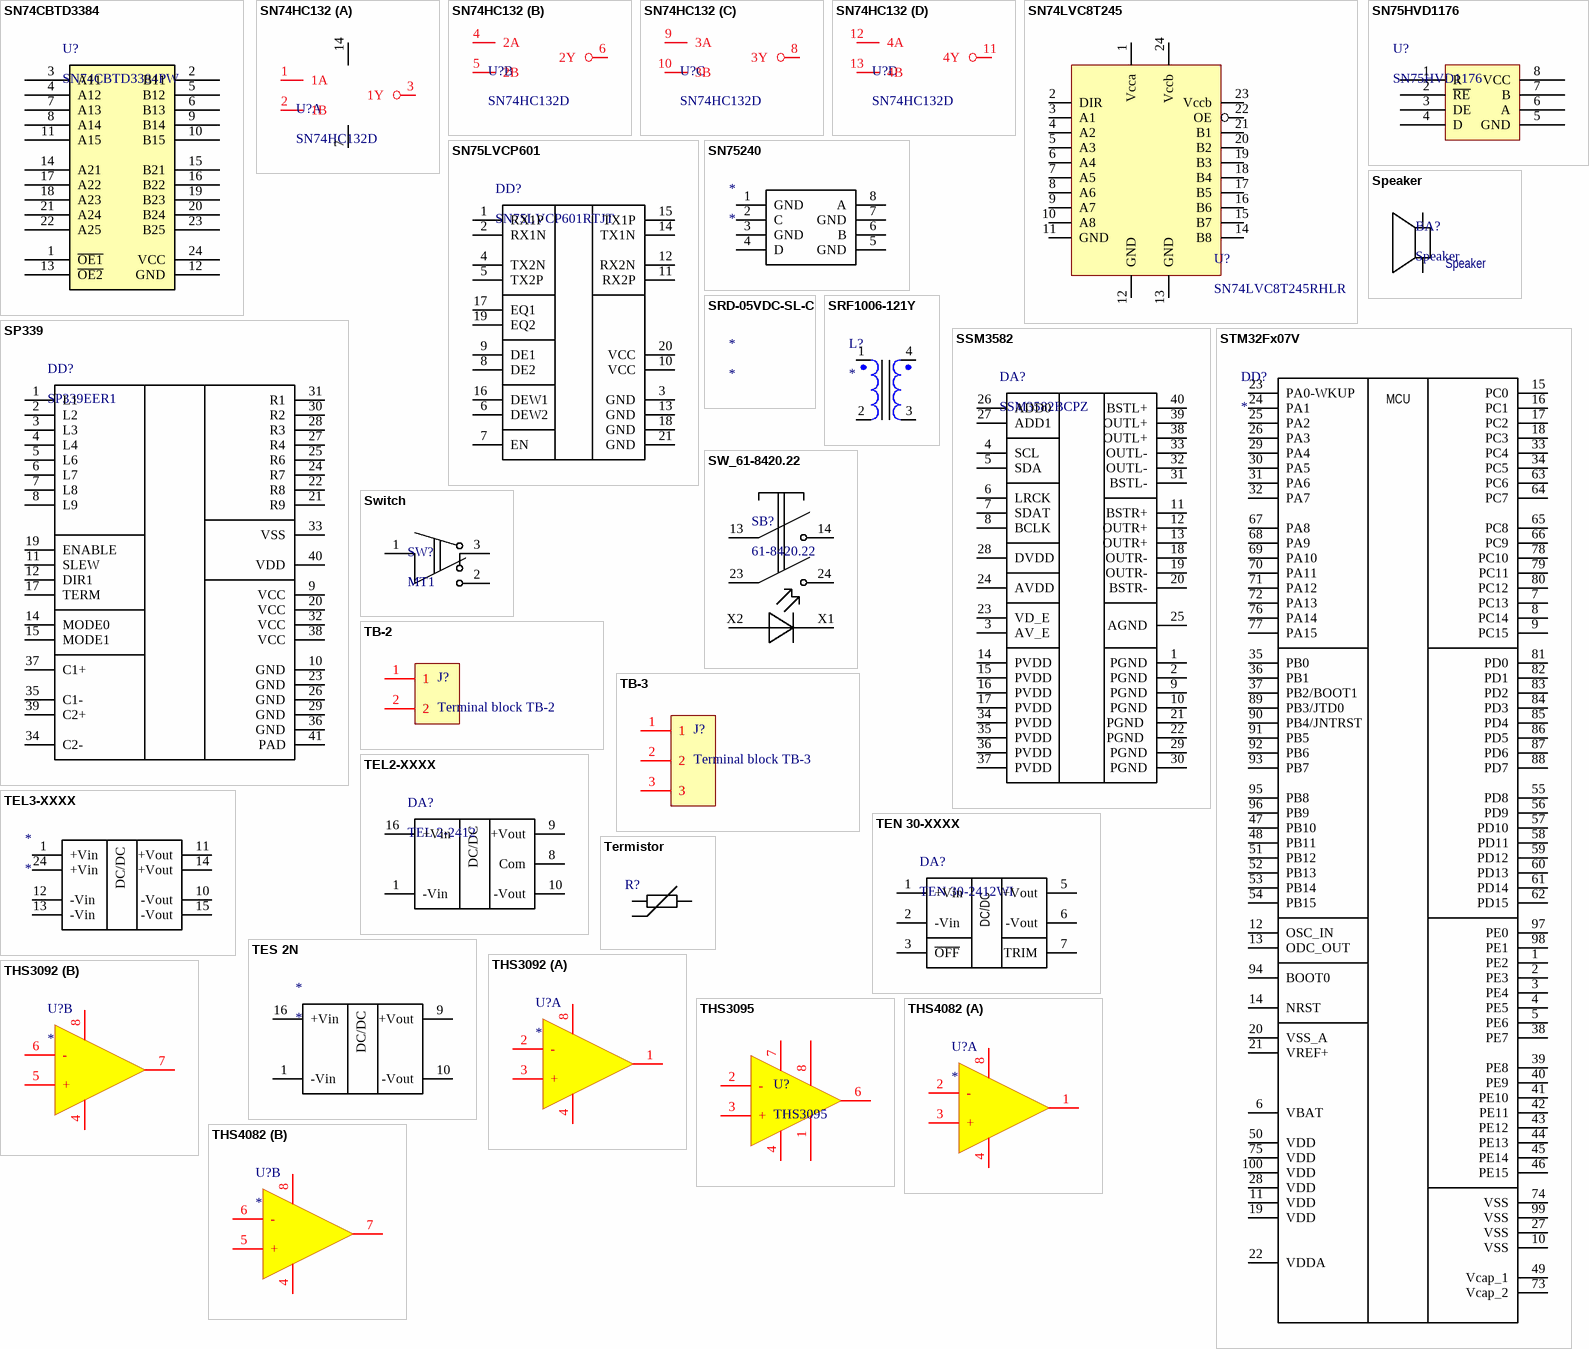
[diagram p31: symbols SN74CBTD3384 to THS4082]

## SN74CBTD3384
designator U?, comment SN74CBTD3384PW
TSSOP24: SN74CBTD3384PW
pins: 1 ~{OE1}, 2 B11, 3 A11, 4 A12, 5 B12, 6 B13, 7 A13, 8 A14, 9 B14, 10 B15, 11 A15, 12 GND, 13 ~{OE2}, 14 A21, 15 B21, 16 B22, 17 A22, 18 A23, 19 B23, 20 B24, 21 A24, 22 A25, 23 B25, 24 VCC

## SN74HC132
designator U?, comment SN74HC132D
value: SN74HC132D
footprint SOP14
part A pins: 1 1A, 2 1B, 3 1Y, 7 GND, 14 VCC
part B pins: 4 2A, 5 2B, 6 2Y
part C pins: 8 3Y, 9 3A, 10 3B
part D pins: 11 4Y, 12 4A, 13 4B

## SN74LVC8T245
designator U?, comment SN74LVC8T245RHLR
VQFN-24: SN74LVC8T245RHLR
footprint PVQFN-24 (SN74LVC8T245RHLR)
footprint SSOP24
pins: 1 Vcca, 2 DIR, 3 A1, 4 A2, 5 A3, 6 A4, 7 A5, 8 A6, 9 A7, 10 A8, 11 GND, 12 GND, 13 GND, 14 B8, 15 B7, 16 B6, 17 B5, 18 B4, 19 B3, 20 B2, 21 B1, 22 OE, 23 Vccb, 24 Vccb

## SN75HVD1176
designator U?
value: SN75HVD1176
footprint SOIC8
pins: 1 R, 2 ~{RE}, 3 DE, 4 D, 5 GND, 6 A, 7 B, 8 VCC

## SN75LVCP601
designator DD?, comment SN75LVCP601RTJT
Two Channel SATA 6Gbps Redriver/Equalizer Evaluation; value: SN75LVCP601RTJT
footprint QFN20_PAD
pins: 1 RX1P, 2 RX1N, 3 GND, 4 TX2N, 5 TX2P, 6 DEW2, 7 EN, 8 DE2, 9 DE1, 10 VCC, 11 RX2P, 12 RX2N, 13 GND, 14 TX1N, 15 TX1P, 16 DEW1, 17 EQ1, 18 GND, 19 EQ2, 20 VCC, 21 GND

## SN75240
designator *
pins: 1 GND, 2 C, 3 GND, 4 D, 5 GND, 6 B, 7 GND, 8 A

## SP339
designator DD?, comment SP339EER1
value: SP339EER1
footprint QFN40_PAD_ (QFN, 40-Leads, Body 6,60x6,60mm, Pitch 0,50mm, Thermal Pad 4,25x4,25mm, IPC Medium Density)
pins: 1 L1, 2 L2, 3 L3, 4 L4, 5 L6, 6 L7, 7 L8, 8 L9, 9 VCC, 10 GND, 11 SLEW, 12 DIR1, 14 MODE0, 15 MODE1, 17 TERM, 19 ENABLE, 20 VCC, 21 R9, 22 R8, 23 GND, 24 R7, 25 R6, 26 GND, 27 R4, 28 R3, 29 GND, 30 R2, 31 R1, 32 VCC, 33 VSS, 34 C2-, 35 C1-, 36 GND, 37 C1+, 38 VCC, 39 C2+, 40 VDD, 41 PAD

## Speaker
designator BA?
Microphone; value: Speaker
pins: 1, 2

## SRD-05VDC-SL-C
designator *

## SRF1006-121Y
designator L?
Line Filter; value: SRF1006-121Y
footprint SRF1006 Series (Line Filter)
pins: 1, 2, 3, 4

## SSM3582
designator DA?, comment SSM3582BCPZ
Filterless Stereo Class-D AudioAmplifier; value: SSM3582BCPZ
footprint FCSP-40 (QFN, 40-Leads, Body 6,60x6,60mm, Pitch 0,50mm, Thermal Pad 4,25x4,25mm, IPC Medium Density)
pins: 1 PGND, 2 PGND, 3 AV_E, 4 SCL, 5 SDA, 6 LRCK, 7 SDAT, 8 BCLK, 9 PGND, 10 PGND, 11 BSTR+, 12 OUTR+, 13 OUTR+, 14 PVDD, 15 PVDD, 16 PVDD, 17 PVDD, 18 OUTR-, 19 OUTR-, 20 BSTR-, 21 PGND , 22 PGND , 23 VD_E, 24 AVDD, 25 AGND, 26 ADD0, 27 ADD1, 28 DVDD, 29 PGND, 30 PGND, 31 BSTL-, 32 OUTL-, 33 OUTL-, 34 PVDD, 35 PVDD, 36 PVDD, 37 PVDD, 38 OUTL+, 39 OUTL+, 40 BSTL+

## STM32Fx07V
designator DD?
микроконтроллер
pins: 1 PE2, 2 PE3, 3 PE4, 4 PE5, 5 PE6, 6 VBAT, 7 PC13, 8 PC14, 9 PC15, 10 VSS, 11 VDD, 12 OSC_IN, 13 ODC_OUT, 14 NRST, 15 PC0, 16 PC1, 17 PC2, 18 PC3, 19 VDD, 20 VSS_A, 21 VREF+, 22 VDDA, 23 PA0-WKUP, 24 PA1, 25 PA2, 26 PA3, 27 VSS, 28 VDD, 29 PA4, 30 PA5, 31 PA6, 32 PA7, 33 PC4, 34 PC5, 35 PB0, 36 PB1, 37 PB2/BOOT1, 38 PE7, 39 PE8, 40 PE9, 41 PE10, 42 PE11, 43 PE12, 44 PE13, 45 PE14, 46 PE15, 47 PB10, 48 PB11, 49 Vcap_1, 50 VDD, 51 PB12, 52 PB13, 53 PB14, 54 PB15, 55 PD8, 56 PD9, 57 PD10, 58 PD11, 59 PD12, 60 PD13, 61 PD14, 62 PD15, 63 PC6, 64 PC7, 65 PC8, 66 PC9, 67 PA8, 68 PA9, 69 PA10, 70 PA11, 71 PA12, 72 PA13, 73 Vcap_2, 74 VSS, 75 VDD, 76 PA14, 77 PA15, 78 PC10, 79 PC11, 80 PC12, 81 PD0, 82 PD1, 83 PD2, 84 PD3, 85 PD4, 86 PD5, 87 PD6, 88 PD7, 89 PB3/JTD0, 90 PB4/JNTRST , 91 PB5, 92 PB6, 93 PB7, 94 BOOT0 , 95 PB8, 96 PB9, 97 PE0, 98 PE1, 99 VSS, 100 VDD
text: MCU

## SW_61-8420.22
designator SB?, comment 61-8420.22
switching element for illumi-  nated-/pushbutton; value: 61-8420.22
pins: 13 1, 14 2, 23 1, 24 2, X1 1, X2 1

## Switch
designator SW?, comment МТ1
value: МТ1
pins: 1, 2, 3

## TB-2
designator J?, comment Terminal block TB-2
footprint TB-2_metric (Terminal block TB-2 metric (h=5.0mm))
pins: 1, 2

## TB-3
designator J?, comment Terminal block TB-3
footprint TB-3_metric (Terminal block TB-3 metric (h=5.0mm))
pins: 1, 2, 3

## TEL2-XXXX
designator DA?, comment TEL 2-2412
DC/DC Converters TEL 2 Series, 2 Watt; value: TEL 2-2412
footprint TEL2 (Footprint not found)
pins: 1 -Vin, 8 Com, 9 +Vout, 10 -Vout, 16 +Vin
text: DC/DC

## TEL3-XXXX
designator *
pins: 1 +Vin, 10 -Vout, 11 +Vout, 12 -Vin, 13 -Vin, 14 +Vout, 15 -Vout, 24 +Vin
text: DC/DC

## TEN 30-XXXX
designator DA?, comment TEN 30-2412WI
DC/DC Converters TEN 30WI Series, 30 Watt; value: TEN 30-2412WI
footprint TEN 30-XXXX WI (Traco Power)
pins: 1 +Vin, 2 -Vin, 3 ~{OFF}, 5 +Vout, 6 -Vout, 7 TRIM
text: DC/DC

## Termistor
designator R?
Термистор; rus_value: *; sds.code: *
pins: 1, 2

## TES 2N
designator *
pins: 1 -Vin, 9 +Vout, 10 -Vout, 16 +Vin
text: DC/DC

## THS3092
designator U?
footprint PSOP8_PAD (SOP, 8-Leads, Body 6x4.7mm, Pitch 1.27mm, IPC Medium Density)
part A pins: 1 OUT, 2 -, 3 +, 4 Vs-, 8 Vs+
part B pins: 4 Vs-, 5 +, 6 -, 7 OUT, 8 Vs+

## THS3095
designator U?
footprint PSOP8_PAD (SOP, 8-Leads, Body 6x4.7mm, Pitch 1.27mm, IPC Medium Density)
pins: 1 REF, 2 -, 3 +, 4 Vs-, 6 Vout, 7 Vs+, 8 ~{P}D

## THS4082
designator U?
footprint PSOP8_PAD (SOP, 8-Leads, Body 6x4.7mm, Pitch 1.27mm, IPC Medium Density)
part A pins: 1 OUT, 2 -, 3 +, 4 Vs-, 8 Vs+
part B pins: 4 Vs-, 5 +, 6 -, 7 OUT, 8 Vs+

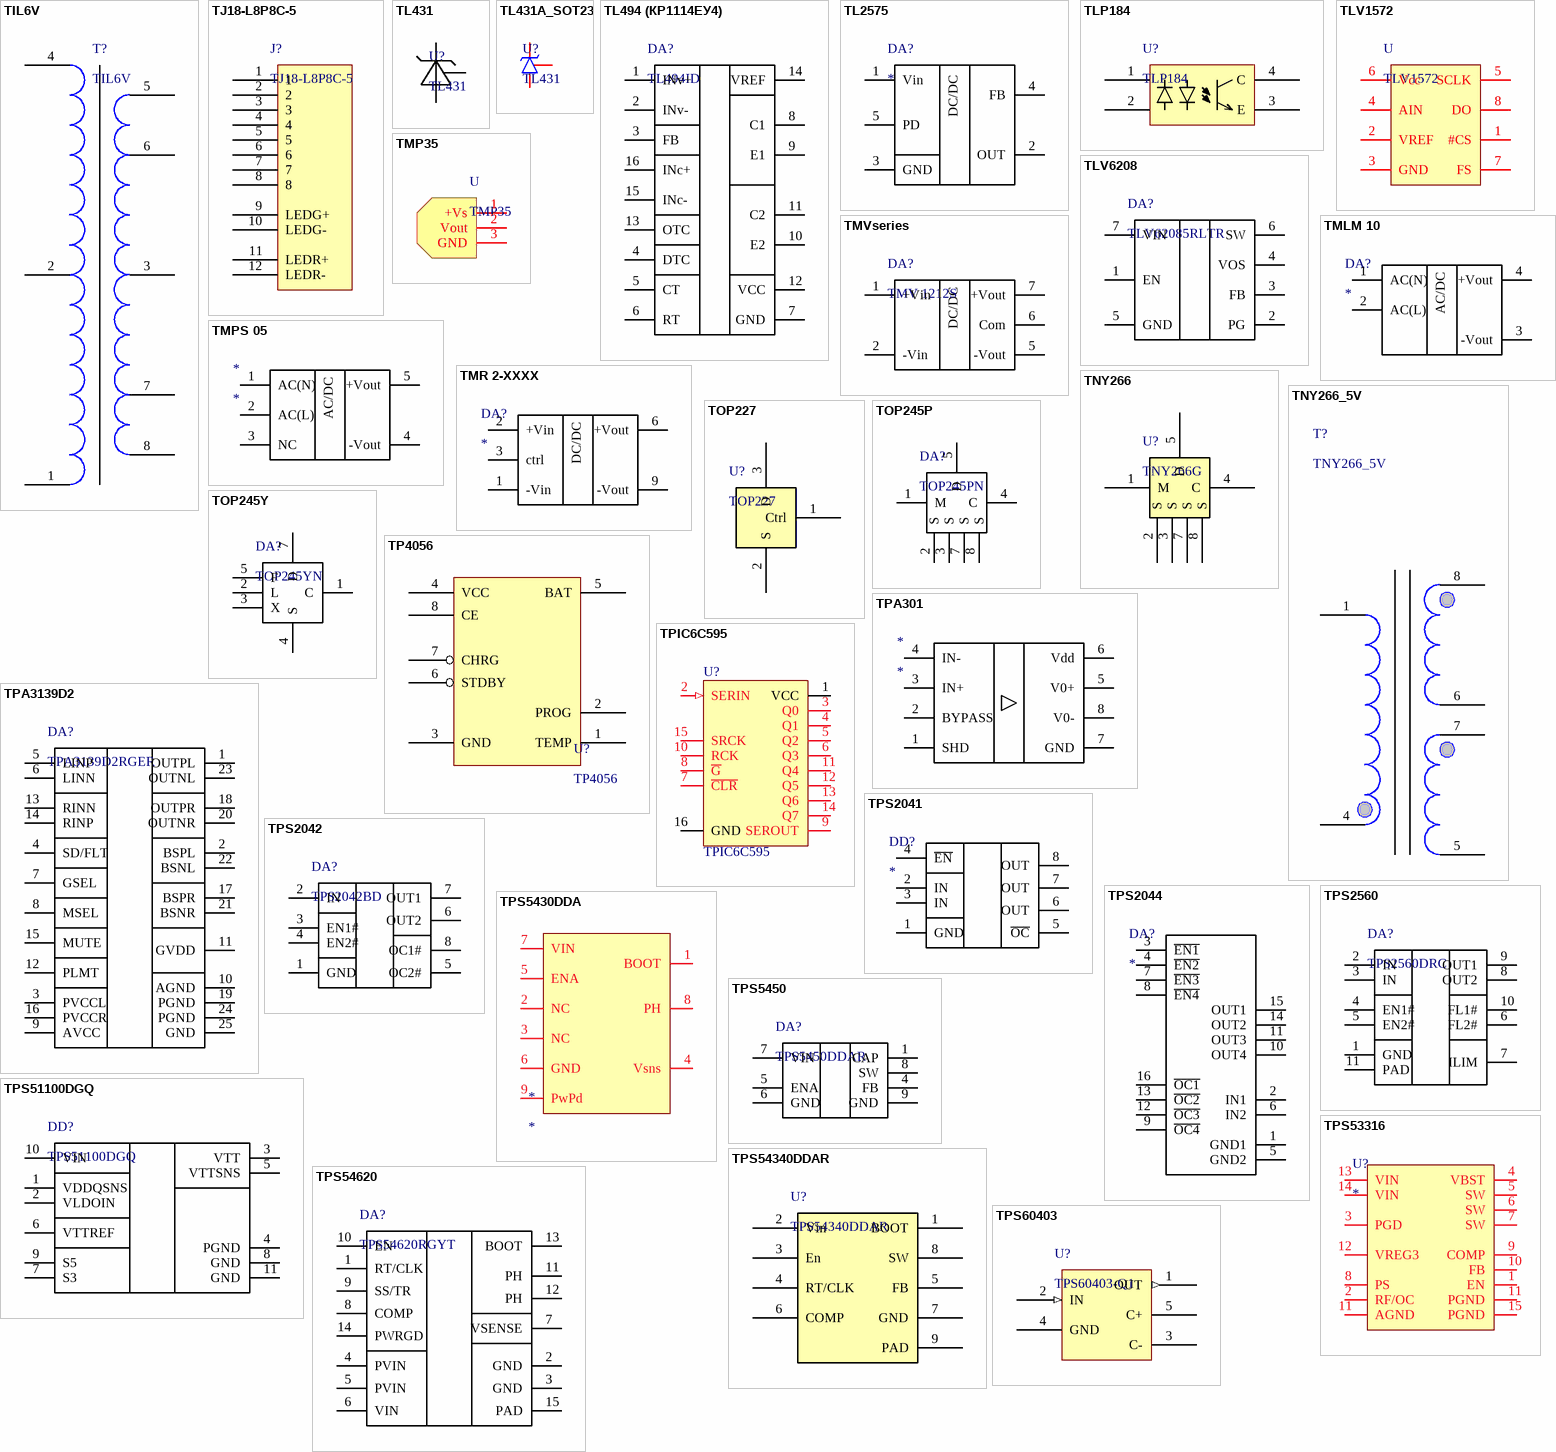
[diagram p32: symbols TIL6V to TPS60403]

## TIL6V
designator T?
value: TIL6V
footprint ТИЛ6В
pins: 1, 2, 3, 4, 5, 6, 7, 8

## TJ18-L8P8C-5
designator J?
pins: 1, 2, 3, 4, 5, 6, 7, 8, 9 LEDG+, 10 LEDG-, 11 LEDR+, 12 LEDR-

## TL431
designator U?
value: TL431
pins: 1 Ref, 2 K, 3 A

## TL431A_SOT23
designator U?, comment TL431
value: TL431
footprint SOT-23
pins: 1 K, 2 Ref, 3 A

## TL494 (КР1114ЕУ4)
designator DA?, comment TL494ID
rus_value: КР1114ЕУ4; value: TL494ID
footprint SO16
pins: 1 INv+, 2 INv-, 3 FB, 4 DTC, 5 CT, 6 RT, 7 GND, 8 C1, 9 E1, 10 E2, 11 C2, 12 VCC, 13 OTC, 14 VREF, 15 INc-, 16 INc+

## TL2575
designator DA?
value: *
footprint TO-263(DDPAK)
pins: 1 Vin, 2 OUT, 3 GND, 4 FB, 5 PD
text: DC/DC

## TLP184
designator U?
value: TLP184
footprint SOIC4
pins: 1, 2, 3 E, 4 C

## TLV1572
designator U
footprint SOIC8
pins: 1 #CS, 2 VREF, 3 GND, 4 AIN, 5 SCLK, 6 Vcc, 7 FS, 8 DO

## TLV6208
designator DA?, comment TLV62085RLTR
value: TLV62085RLTR
pins: 1 EN, 2 PG, 3 FB, 4 VOS, 5 GND, 6 SW, 7 VIN

## TMLM 10
designator DA?
AC/DC 10W; value: TMLM 10
pins: 1 AC(N), 2 AC(L), 3 -Vout, 4 +Vout
text: AC/DC

## TMP35
designator U
pins: 1 +Vs, 2 Vout, 3 GND

## TMPS 05
designator *
AC/DC 5V 5W
pins: 1 AC(N), 2 AC(L), 3 NC, 4 -Vout, 5 +Vout
text: AC/DC

## TMR 2-XXXX
designator DA?
DDC/DC convertor
pins: 1 -Vin, 2 +Vin, 3 ctrl, 6 +Vout, 9 -Vout
text: DC/DC

## TMVseries
designator DA?, comment TMV 1212S
1 Watt DC  /DC Converters; value: TMV 1212S
pins: 1 +Vin, 2 -Vin, 5 -Vout, 6 Com, 7 +Vout
text: DC/DC

## TNY266
designator U?, comment TNY266G
value: TNY266G
footprint DIP8_TOP (Footprint not found)
pins: 1 M, 2 S, 3 S, 4 C, 5 D, 7 S, 8 S

## TNY266_5V
designator T?
pins: 1, 4, 5, 6, 7, 8

## TOP227
designator U?
value: TOP227
footprint TO-220_v
pins: 1 Ctrl, 2 S, 3 D

## TOP245P
designator DA?, comment TOP245PN
value: TOP245PN
footprint DIP8_TOP (Footprint not found)
pins: 1 M, 2 S, 3 S, 4 C, 5 D, 7 S, 8 S

## TOP245Y
designator DA?, comment TOP245YN
value: TOP245YN
footprint DIP8_TOP (Footprint not found)
pins: 1 C, 2 L, 3 X, 4 S, 5 F, 7 D

## TP4056
designator U?
footprint SO8 (SOIC, 8-Leads, Body 4.9x3.9mm, Pitch 1.27mm, IPC Medium Density)
pins: 1 TEMP, 2 PROG, 3 GND, 4 VCC, 5 BAT, 6 STDBY, 7 CHRG, 8 CE

## TPA301
designator *
pins: 1 SHD, 2 BYPASS, 3 IN+, 4 IN-, 5 V0+, 6 Vdd, 7 GND, 8 V0-

## TPA3139D2
designator DA?, comment TPA3139D2RGER
Filterless Stereo Class-D AudioAmplifier; value: TPA3139D2RGER
footprint VQFN24 (Footprint not found)
pins: 1 OUTPL, 2 BSPL, 3 PVCCL, 4 SD/FLT, 5 LINP, 6 LINN, 7 GSEL, 8 MSEL, 9 AVCC, 10 AGND, 11 GVDD, 12 PLMT, 13 RINN, 14 RINP, 15 MUTE, 16 PVCCR, 17 BSPR, 18 OUTPR, 19 PGND, 20 OUTNR, 21 BSNR, 22 BSNL, 23 OUTNL, 24 PGND, 25 GND

## TPIC6C595
designator U?
footprint SO16
pins: 1 VCC, 2 SERIN (in), 3 Q0, 4 Q1, 5 Q2, 6 Q3, 7 ~{CLR}, 8 ~{G}, 9 SEROUT, 10 RCK, 11 Q4, 12 Q5, 13 Q6, 14 Q7, 15 SRCK, 16 GND

## TPS2041
designator DD?
POWER-DISTRIBUTION SWITCHES
pins: 1 GND, 2 IN, 3 IN, 4 ~{EN}, 5 ~{OC}, 6 OUT, 7 OUT, 8 OUT

## TPS2042
designator DA?, comment TPS2042BD
DUAL POWER-DISTRIBUTION SWITCHES; value: TPS2042BD
footprint SO8 (SOIC, 8-Leads, Body 4.9x3.9mm, Pitch 1.27mm, IPC Medium Density)
pins: 1 GND, 2 IN, 3 EN1#, 4 EN2#, 5 OC2#, 6 OUT2, 7 OUT1, 8 OC1#

## TPS2044
designator DA?
pins: 1 GND1, 2 IN1, 3 ~{EN1}, 4 ~{EN2}, 5 GND2, 6 IN2, 7 ~{EN3}, 8 ~{EN4}, 9 ~{OC4}, 10 OUT4, 11 OUT3, 12 ~{OC3}, 13 ~{OC2}, 14 OUT2, 15 OUT1, 16 ~{OC1}

## TPS2560
designator DA?, comment TPS2560DRC
DUAL POWER-DISTRIBUTION SWITCHES; value: TPS2560DRC
pins: 1 GND, 2 IN, 3 IN, 4 EN1#, 5 EN2#, 6 FL2#, 7 ILIM, 8 OUT2, 9 OUT1, 10 FL1#, 11 PAD

## TPS5430DDA
designator *
footprint SOIC8 PAD
pins: 1 BOOT, 2 NC, 3 NC, 4 Vsns, 5 ENA, 6 GND, 7 VIN, 8 PH, 9 PwPd

## TPS5450
designator DA?, comment TPS5450DDAR
value: TPS5450DDAR
footprint SO8_PAD (SOIC, 8-Leads, Body 4.9x3.9mm, Pitch 1.27mm, IPC Medium Density)
pins: 1 CAP, 4 FB, 5 ENA, 6 GND, 7 VIN, 8 SW, 9 GND

## TPS51100DGQ
designator DD?
Voltage Regulator Type for DDR; value: TPS51100DGQ; rus_value: TPS51100DGQ
footprint DGQ10_PAD (MSOP 10 PowerPad)
pins: 1 VDDQSNS, 2 VLDOIN, 3 VTT, 4 PGND, 5 VTTSNS, 6 VTTREF, 7 S3, 8 GND, 9 S5, 10 VIN, 11 GND

## TPS53316
designator U?
pins: 1 EN, 2 RF/OC, 3 PGD, 4 VBST, 5 SW, 6 SW, 7 SW, 8 PS, 9 COMP, 10 FB, 11 AGND, 11 PGND, 12 VREG3, 13 VIN, 14 VIN, 15 PGND

## TPS54340DDAR
designator U?
value: TPS54340DDAR
footprint SOIC8 PAD
pins: 1 BOOT (power), 2 Vin (power), 3 En (power), 4 RT/CLK (power), 5 FB (power), 6 COMP (power), 7 GND (power), 8 SW (power), 9 PAD (power)

## TPS54620
designator DA?, comment TPS54620RGYT
value: TPS54620RGYT
pins: 1 RT/CLK, 2 GND, 3 GND, 4 PVIN, 5 PVIN, 6 VIN, 7 VSENSE, 8 COMP, 9 SS/TR, 10 EN, 11 PH, 12 PH, 13 BOOT, 14 PWRGD, 15 PAD

## TPS60403
designator U?, comment TPS60403-Q1
value: TPS60403-Q1
footprint SOT-23-5 (SOT-23 5pin)
pins: 1 OUT (out), 2 IN (in), 3 C-, 4 GND, 5 C+

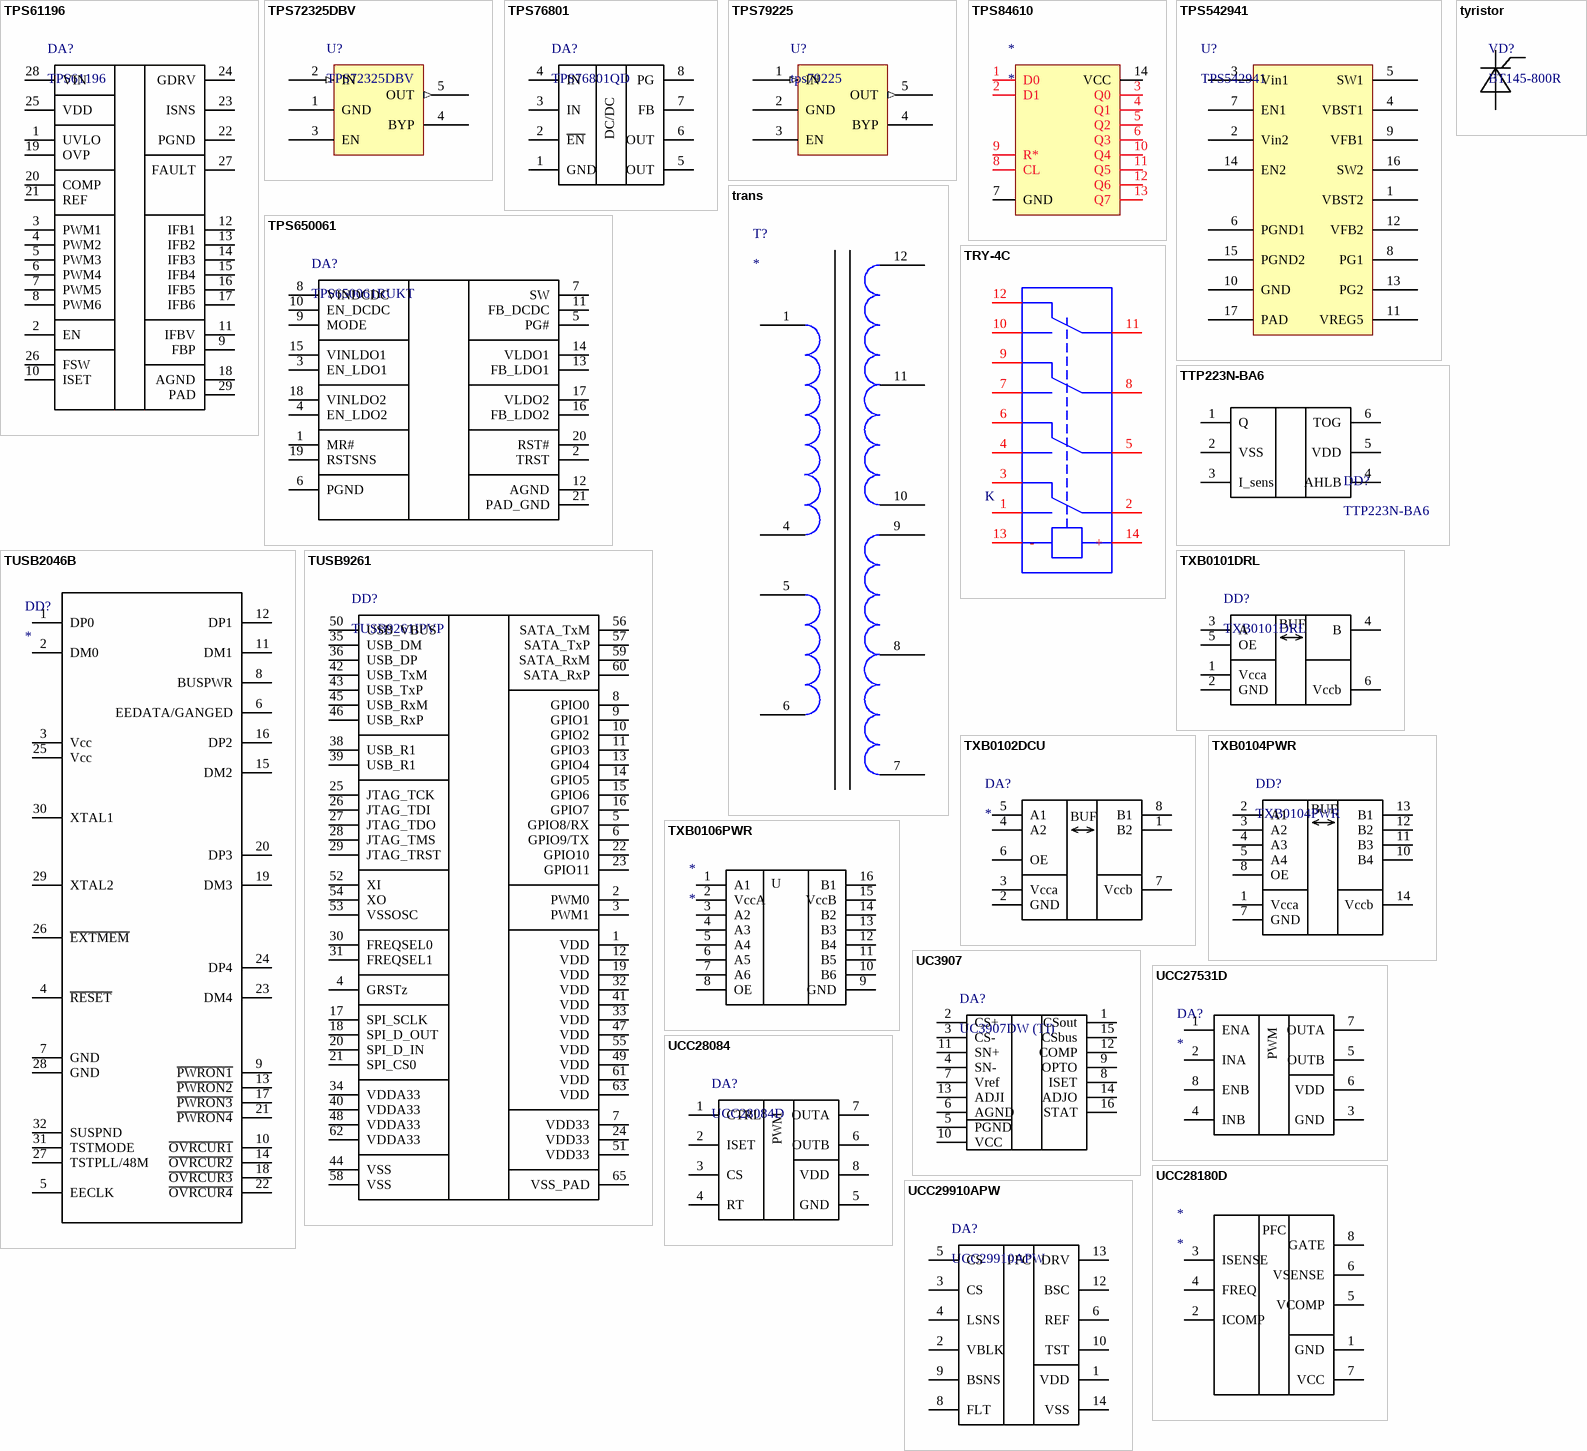
[diagram p33: symbols TPS61196 to UCC29910APW]

## TPS61196
designator DA?
value: *; rus_value: *
footprint SOIC28_300mil
pins: 1 UVLO, 2 EN, 3 PWM1, 4 PWM2, 5 PWM3, 6 PWM4, 7 PWM5, 8 PWM6, 9 FBP, 10 ISET, 11 IFBV, 12 IFB1, 13 IFB2, 14 IFB3, 15 IFB4, 16 IFB5, 17 IFB6, 18 AGND, 19 OVP, 20 COMP, 21 REF, 22 PGND, 23 ISNS, 24 GDRV, 25 VDD, 26 FSW, 27 FAULT, 28 VIN, 29 PAD

## TPS72325DBV
designator U?
100-mA  LOW-DROPOUT LINEAR REGULATORS; value: TPS72325DBV
footprint SOT-23-5 (SOT-23 5pin)
pins: 1 GND (power), 2 IN (in), 3 EN, 4 BYP, 5 OUT (out)

## TPS76801
designator DA?, comment TPS76801QD
value: TPS76801QD
footprint SO8 (SOIC, 8-Leads, Body 4.9x3.9mm, Pitch 1.27mm, IPC Medium Density)
pins: 1 GND, 2 ~{EN}, 3 IN, 4 IN, 5 OUT, 6 OUT, 7 FB, 8 PG
text: DC/DC

## TPS79225
designator U?, comment tps79225
100-mA  LOW-DROPOUT LINEAR REGULATORS; value: tps79225
footprint SOT-23-5 (SOT-23 5pin)
pins: 1 IN (in), 2 GND (power), 3 EN, 4 BYP, 5 OUT (out)

## TPS84610
designator *
pins: 1 D0, 2 D1, 3 Q0, 4 Q1, 5 Q2, 6 Q3, 7 GND, 8 CL, 9 R*, 10 Q4, 11 Q5, 12 Q6, 13 Q7, 14 VCC

## TPS542941
designator U?
value: TPS542941
footprint PQFN 16 (16-Pin Plastic Quad Flat No-Lead 0.65 mm Pitch, IPC High Density)
pins: 1 VBST2, 2 Vin2, 3 Vin1, 4 VBST1, 5 SW1, 6 PGND1, 7 EN1, 8 PG1, 9 VFB1, 10 GND, 11 VREG5, 12 VFB2, 13 PG2, 14 EN2, 15 PGND2, 16 SW2, 17 PAD

## TPS650061
designator DA?, comment TPS650061RUKT
2.25-MHz Step-Down Converter With Dual Low Dropouts and Supply Voltage Supervisor; value: TPS650061RUKT
footprint QFN20 (Footprint not found)
pins: 1 MR#, 2 TRST, 3 EN_LDO1, 4 EN_LDO2, 5 PG#, 6 PGND, 7 SW, 8 VINDCDC, 9 MODE, 10 EN_DCDC, 11 FB_DCDC, 12 AGND, 13 FB_LDO1, 14 VLDO1, 15 VINLDO1, 16 FB_LDO2, 17 VLDO2, 18 VINLDO2, 19 RSTSNS, 20 RST#, 21 PAD_GND

## trans
designator T?
pins: 1, 4, 5, 6, 7, 8, 9, 10, 11, 12

## TRY-4C
designator K  (value not drawn)
footprint TRY-4C
pins: 1, 2, 3, 4, 5, 6 5, 7, 8, 9, 10, 11, 12, 13 -, 14 +

## TTP223N-BA6
designator DD?
footprint SOT-23-6 (SOT-23 5pin)
pins: 1 Q, 2 VSS, 3 I_sens, 4 AHLB, 5 VDD, 6 TOG

## TUSB2046В
designator DD?
USB hub 4-port
pins: 1 DP0, 2 DM0, 3 Vcc, 4 ~{RESET}, 5 EECLK, 6 EEDATA/GANGED, 7 GND, 8 BUSPWR, 9 ~{PWRON1}, 10 ~{OVRCUR1}, 11 DM1, 12 DP1, 13 ~{PWRON2}, 14 ~{OVRCUR2}, 15 DM2, 16 DP2, 17 ~{PWRON3}, 18 ~{OVRCUR3}, 19 DM3, 20 DP3, 21 ~{PWRON4}, 22 ~{OVRCUR4}, 23 DM4, 24 DP4, 25 Vcc, 26 ~{EXTMEM}, 27 TSTPLL/48M, 28 GND, 29 XTAL2, 30 XTAL1, 31 TSTMODE, 32 SUSPND

## TUSB9261
designator DD?, comment TUSB9261IPVP
value: TUSB9261IPVP
pins: 1 VDD, 2 PWM0, 3 PWM1, 4 GRSTz, 5 GPIO8/RX, 6 GPIO9/TX, 7 VDD33, 8 GPIO0, 9 GPIO1, 10 GPIO2, 11 GPIO3, 12 VDD, 13 GPIO4, 14 GPIO5, 15 GPIO6, 16 GPIO7, 17 SPI_SCLK, 18 SPI_D_OUT, 19 VDD, 20 SPI_D_IN, 21 SPI_CS0, 22 GPIO10, 23 GPIO11, 24 VDD33, 25 JTAG_TCK, 26 JTAG_TDI, 27 JTAG_TDO, 28 JTAG_TMS, 29 JTAG_TRST, 30 FREQSEL0, 31 FREQSEL1, 32 VDD, 33 VDD, 34 VDDA33, 35 USB_DM, 36 USB_DP, 38 USB_R1, 39 USB_R1, 40 VDDA33, 41 VDD, 42 USB_TxM, 43 USB_TxP, 44 VSS, 45 USB_RxM, 46 USB_RxP, 47 VDD, 48 VDDA33, 49 VDD, 50 USB_VBUS, 51 VDD33, 52 XI, 53 VSSOSC, 54 XO, 55 VDD, 56 SATA_TxM, 57 SATA_TxP, 58 VSS, 59 SATA_RxM, 60 SATA_RxP, 61 VDD, 62 VDDA33, 63 VDD, 65 VSS_PAD

## TXB0101DRL
designator DD?
value: TXB0101DRL
pins: 1 Vcca, 2 GND, 3 A, 4 B, 5 OE, 6 Vccb
text: BUF

## TXB0102DCU
designator DA?
Bidirectional Voltage-Level Translator
pins: 1 B2, 2 GND, 3 Vcca, 4 A2, 5 A1, 6 OE, 7 Vccb, 8 B1
text: BUF

## TXB0104PWR
designator DD?
Bidirectional Voltage-Level Translator; value: TXB0104PWR
footprint TSSOP-14
pins: 1 Vcca, 2 A1, 3 A2, 4 A3, 5 A4, 7 GND, 8 OE, 10 B4, 11 B3, 12 B2, 13 B1, 14 Vccb
text: BUF

## TXB0106PWR
designator *
Bidirectional Voltage-Level Translator
pins: 1 A1, 2 VccA, 3 A2, 4 A3, 5 A4, 6 A5, 7 A6, 8 OE, 9 GND, 10 B6, 11 B5, 12 B4, 13 B3, 14 B2, 15 VccB, 16 B1
text: U

## tyristor
designator VD?, comment BT145-800R
value: BT145-800R
footprint TO-220_h_b
pins: 1 A, 2 G, 3 K

## UC3907
designator DA?, comment UC3907DW (TI)
value: UC3907DW (TI)
footprint SO16_WB (16-Lead SOIC (wide body))
pins: 1 CSout, 2 CS+, 3 CS-, 4 SN-, 5 PGND, 6 AGND, 7 Vref, 8 ISET, 9 OPTO, 10 VCC, 11 SN+, 12 COMP, 13 ADJI, 14 ADJO, 15 CSbus, 16 STAT

## UCC27531D
designator DA?
pins: 1 ENA, 2 INA, 3 GND, 4 INB, 5 OUTB, 6 VDD, 7 OUTA, 8 ENB
text: PWM

## UCC28084
designator DA?, comment UCC28084D
CURRENT MODE PUSH-PULL PWM CONTROLLERS; value: UCC28084D
footprint SO8 (SOIC, 8-Leads, Body 4.9x3.9mm, Pitch 1.27mm, IPC Medium Density)
pins: 1 CTRL, 2 ISET, 3 CS, 4 RT, 5 GND, 6 OUTB, 7 OUTA, 8 VDD
text: PWM

## UCC28180D
designator *
pins: 1 GND, 2 ICOMP, 3 ISENSE, 4 FREQ, 5 VCOMP, 6 VSENSE, 7 VCC, 8 GATE
text: PFC

## UCC29910APW
designator DA?
Buck PFC; value: UCC29910APW
footprint TSSOP-14
pins: 1 VDD, 2 VBLK, 3 CS, 4 LSNS, 5 CS, 6 REF, 8 FLT, 9 BSNS, 10 TST, 12 BSC, 13 DRV, 14 VSS
text: PFC

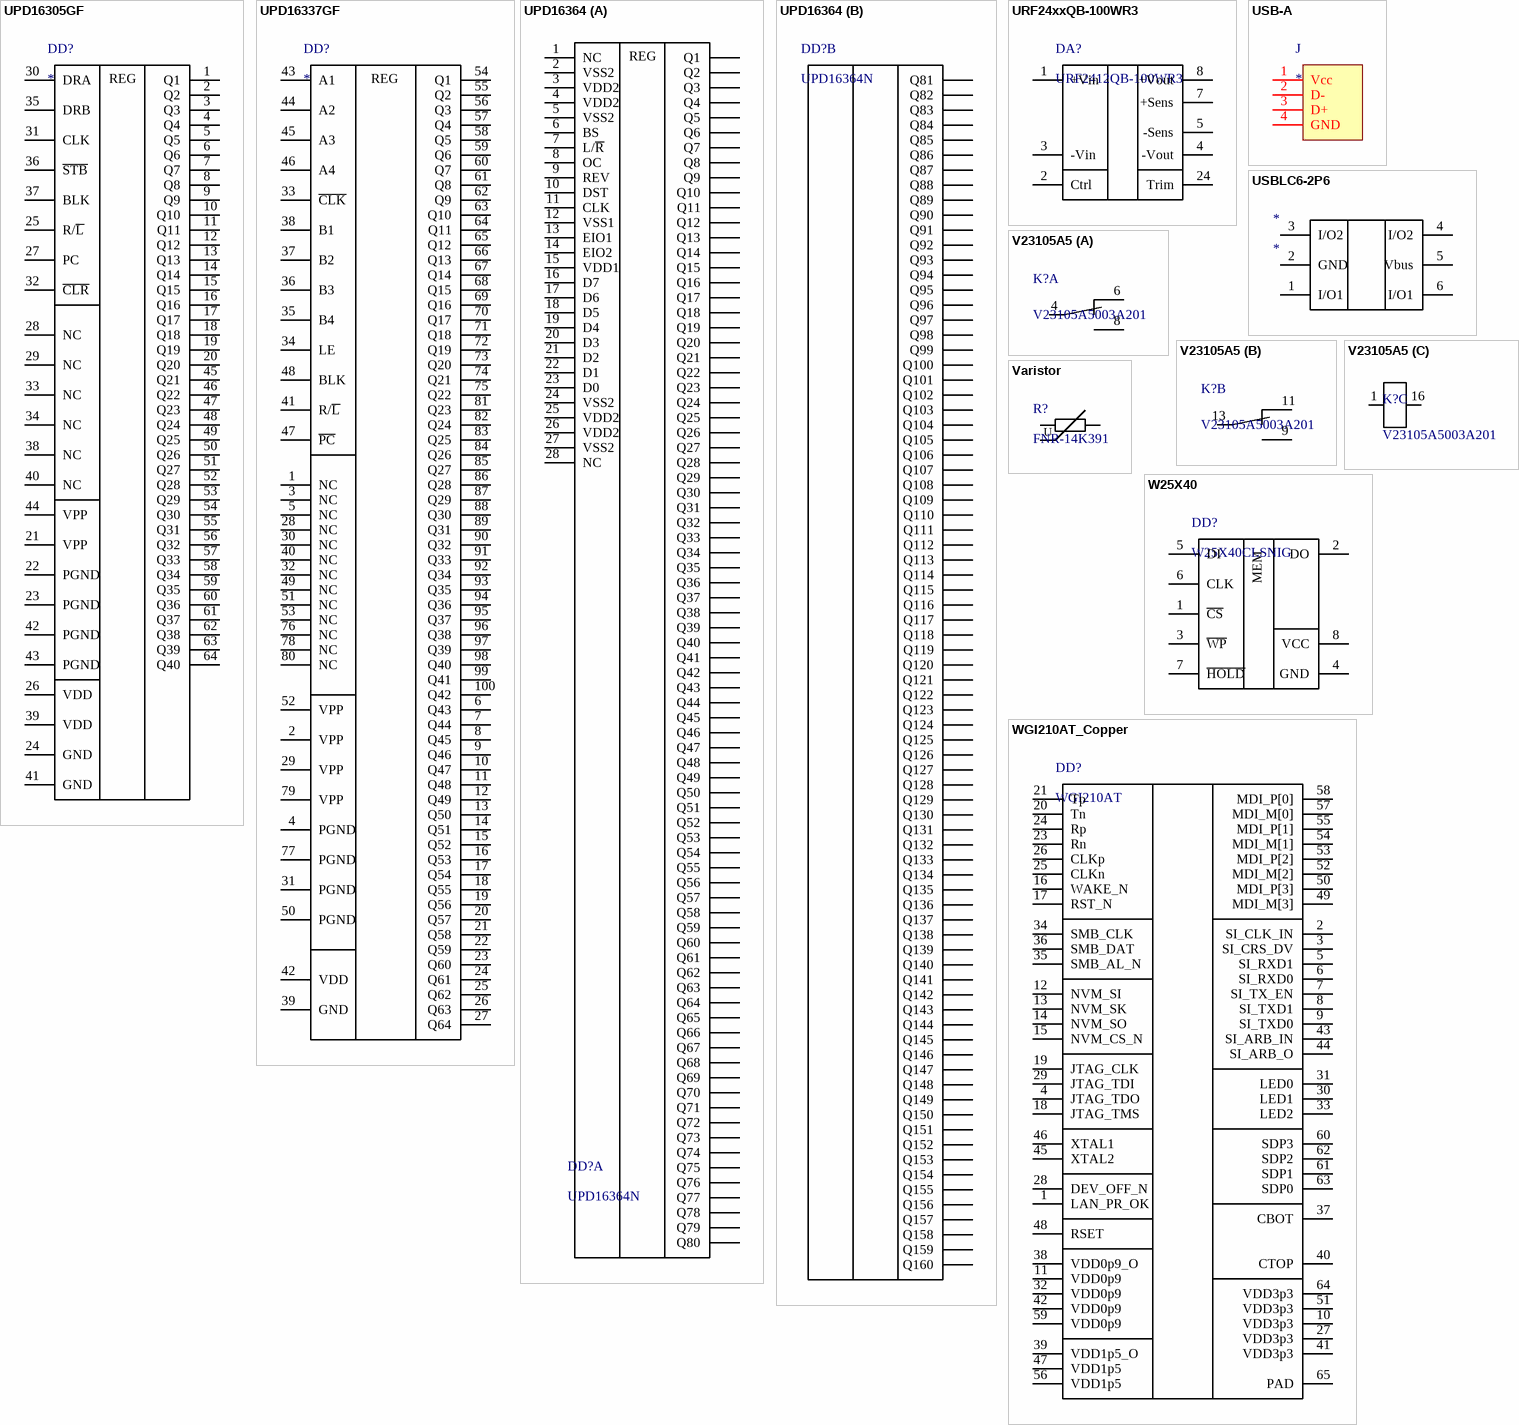
[diagram p34: symbols UPD16305GF to WGI210AT_Copper]

## UPD16305GF
designator DD?
pins: 1 Q1, 2 Q2, 3 Q3, 4 Q4, 5 Q5, 6 Q6, 7 Q7, 8 Q8, 9 Q9, 10 Q10, 11 Q11, 12 Q12, 13 Q13, 14 Q14, 15 Q15, 16 Q16, 17 Q17, 18 Q18, 19 Q19, 20 Q20, 21 VPP, 22 PGND, 23 PGND, 24 GND, 25 R/~{L}, 26 VDD, 27 PC, 28 NC, 29 NC, 30 DRA, 31 CLK, 32 ~{CLR}, 33 NC, 34 NC, 35 DRB, 36 ~{STB}, 37 BLK, 38 NC, 39 VDD, 40 NC, 41 GND, 42 PGND, 43 PGND, 44 VPP, 45 Q21, 46 Q22, 47 Q23, 48 Q24, 49 Q25, 50 Q26, 51 Q27, 52 Q28, 53 Q29, 54 Q30, 55 Q31, 56 Q32, 57 Q33, 58 Q34, 59 Q35, 60 Q36, 61 Q37, 62 Q38, 63 Q39, 64 Q40
text: REG

## UPD16337GF
designator DD?
pins: 1 NC, 2 VPP, 3 NC, 4 PGND, 5 NC, 6 Q43, 7 Q44, 8 Q45, 9 Q46, 10 Q47, 11 Q48, 12 Q49, 13 Q50, 14 Q51, 15 Q52, 16 Q53, 17 Q54, 18 Q55, 19 Q56, 20 Q57, 21 Q58, 22 Q59, 23 Q60, 24 Q61, 25 Q62, 26 Q63, 27 Q64, 28 NC, 29 VPP, 30 NC, 31 PGND, 32 NC, 33 ~{CLK}, 34 LE, 35 B4, 36 B3, 37 B2, 38 B1, 39 GND, 40 NC, 41 R/~{L}, 42 VDD, 43 A1, 44 A2, 45 A3, 46 A4, 47 ~{PC}, 48 BLK, 49 NC, 50 PGND, 51 NC, 52 VPP, 53 NC, 54 Q1, 55 Q2, 56 Q3, 57 Q4, 58 Q5, 59 Q6, 60 Q7, 61 Q8, 62 Q9, 63 Q10, 64 Q11, 65 Q12, 66 Q13, 67 Q14, 68 Q15, 69 Q16, 70 Q17, 71 Q18, 72 Q19, 73 Q20, 74 Q21, 75 Q22, 76 NC, 77 PGND, 78 NC, 79 VPP, 80 NC, 81 Q23, 82 Q24, 83 Q25, 84 Q26, 85 Q27, 86 Q28, 87 Q29, 88 Q30, 89 Q31, 90 Q32, 91 Q33, 92 Q34, 93 Q35, 94 Q36, 95 Q37, 96 Q38, 97 Q39, 98 Q40, 99 Q41, 100 Q42
text: REG

## UPD16364
designator DD?, comment UPD16364N
value: UPD16364N
part A pins: 1 NC, 2 VSS2, 3 VDD2, 4 VDD2, 5 VSS2, 6 BS, 7 L/~{R}, 8 OC, 9 REV, 10 DST, 11 CLK, 12 VSS1, 13 EIO1, 14 EIO2, 15 VDD1, 16 D7, 17 D6, 18 D5, 19 D4, 20 D3, 21 D2, 22 D1, 23 D0, 24 VSS2, 25 VDD2, 26 VDD2, 27 VSS2, 28 NC, ?1 Q1, ?2 Q2, ?3 Q3, ?4 Q4, ?5 Q5, ?6 Q6, ?7 Q7, ?8 Q8, ?9 Q9, ?10 Q10, ?11 Q11, ?12 Q12, ?13 Q13, ?14 Q14, ?15 Q15, ?16 Q16, ?17 Q17, ?18 Q18, ?19 Q19, ?20 Q20, ?21 Q21, ?22 Q22, ?23 Q23, ?24 Q24, ?25 Q25, ?26 Q26, ?27 Q27, ?28 Q28, ?29 Q29, ?30 Q30, ?31 Q60, ?32 Q59, ?33 Q58, ?34 Q57, ?35 Q56, ?36 Q55, ?37 Q54, ?38 Q53, ?39 Q52, ?40 Q51, ?41 Q50, ?42 Q49, ?43 Q48, ?44 Q47, ?45 Q46, ?46 Q45, ?47 Q44, ?48 Q43, ?49 Q42, ?50 Q41, ?51 Q40, ?52 Q39, ?53 Q38, ?54 Q37, ?55 Q36, ?56 Q35, ?57 Q34, ?58 Q33, ?59 Q32, ?60 Q31, ?61 Q61, ?62 Q62, ?63 Q63, ?64 Q64, ?65 Q65, ?66 Q66, ?67 Q67, ?68 Q68, ?69 Q69, ?70 Q70, ?71 Q71, ?72 Q72, ?73 Q73, ?74 Q74, ?75 Q75, ?76 Q76, ?77 Q77, ?78 Q78, ?79 Q79, ?80 Q80
part B pins: ? Q81, ? Q82, ? Q83, ? Q84, ? Q85, ? Q86, ? Q87, ? Q88, ? Q89, ? Q90, ? Q91, ? Q92, ? Q93, ? Q94, ? Q95, ? Q96, ? Q97, ? Q98, ? Q99, ? Q100, ? Q101, ? Q102, ? Q103, ? Q104, ? Q105, ? Q106, ? Q107, ? Q108, ? Q109, ? Q110, ? Q111, ? Q112, ? Q113, ? Q114, ? Q115, ? Q116, ? Q117, ? Q118, ? Q119, ? Q120, ? Q121, ? Q122, ? Q123, ? Q124, ? Q125, ? Q126, ? Q127, ? Q128, ? Q129, ? Q130, ? Q131, ? Q132, ? Q133, ? Q134, ? Q135, ? Q136, ? Q137, ? Q138, ? Q139, ? Q140, ? Q141, ? Q142, ? Q143, ? Q144, ? Q145, ? Q146, ? Q147, ? Q148, ? Q149, ? Q150, ? Q151, ? Q152, ? Q153, ? Q154, ? Q155, ? Q156, ? Q157, ? Q158, ? Q159, ? Q160
part A text: REG

## URF24xxQB-100WR3
designator DA?, comment URF2412QB-100WR3
DC/DC Converters 100W; value: URF2412QB-100WR3; rus_value: URF2412QB-100WR3
pins: 1 +Vin, 2 Ctrl, 3 -Vin, 4 -Vout, 5 -Sens, 7 +Sens, 8 +Vout, 24 Trim

## USB-A
designator J
footprint USB-A
pins: 1 Vcc, 2 D-, 3 D+, 4 GND

## USBLC6-2P6
designator *
pins: 1 I/O1, 2 GND, 3 I/O2, 4 I/O2, 5 Vbus, 6 I/O1

## V23105A5
designator K?, comment V23105A5003A201
DC 12V: V23105A5003A201
footprint V23105A5
part A pins: 4, 6, 8
part B pins: 9, 11, 13
part C pins: 1 +, 16 -

## Varistor
designator R?, comment FNR-14K391
Варистор; value: FNR-14K391
footprint Varistor14mm
pins: 1, 2
text: U

## W25X40
designator DD?, comment W25X40CLSNIG
SERIAL FLASH MEMORY WITH 4KB SECTORS AND DUAL I/O SPI; value: W25X40CLSNIG
footprint SO8 (SOIC, 8-Leads, Body 4.9x3.9mm, Pitch 1.27mm, IPC Medium Density)
pins: 1 ~{CS}, 2 DO, 3 ~{WP}, 4 GND, 5 DI, 6 CLK, 7 ~{HOLD}, 8 VCC
text: MEM

## WGI210AT_Copper
designator DD?, comment WGI210AT
value: WGI210AT
footprint QFN64 (QFN64 Analog Devices)
pins: 1 LAN_PR_OK, 2 SI_CLK_IN, 3 SI_CRS_DV, 4 JTAG_TDO, 5 SI_RXD1, 6 SI_RXD0, 7 SI_TX_EN, 8 SI_TXD1, 9 SI_TXD0, 10 VDD3p3, 11 VDD0p9, 12 NVM_SI, 13 NVM_SK, 14 NVM_SO, 15 NVM_CS_N, 16 WAKE_N, 17 RST_N, 18 JTAG_TMS, 19 JTAG_CLK, 20 Tn, 21 Tp, 23 Rn, 24 Rp, 25 CLKn, 26 CLKp, 27 VDD3p3, 28 DEV_OFF_N, 29 JTAG_TDI, 30 LED1, 31 LED0, 32 VDD0p9, 33 LED2, 34 SMB_CLK, 35 SMB_AL_N, 36 SMB_DAT, 37 CBOT, 38 VDD0p9_O, 39 VDD1p5_O, 40 CTOP, 41 VDD3p3, 42 VDD0p9, 43 SI_ARB_IN, 44 SI_ARB_O, 45 XTAL2, 46 XTAL1, 47 VDD1p5, 48 RSET, 49 MDI_M[3], 50 MDI_P[3], 51 VDD3p3, 52 MDI_M[2], 53 MDI_P[2], 54 MDI_M[1], 55 MDI_P[1], 56 VDD1p5, 57 MDI_M[0], 58 MDI_P[0], 59 VDD0p9, 60 SDP3, 61 SDP1, 62 SDP2, 63 SDP0, 64 VDD3p3, 65 PAD

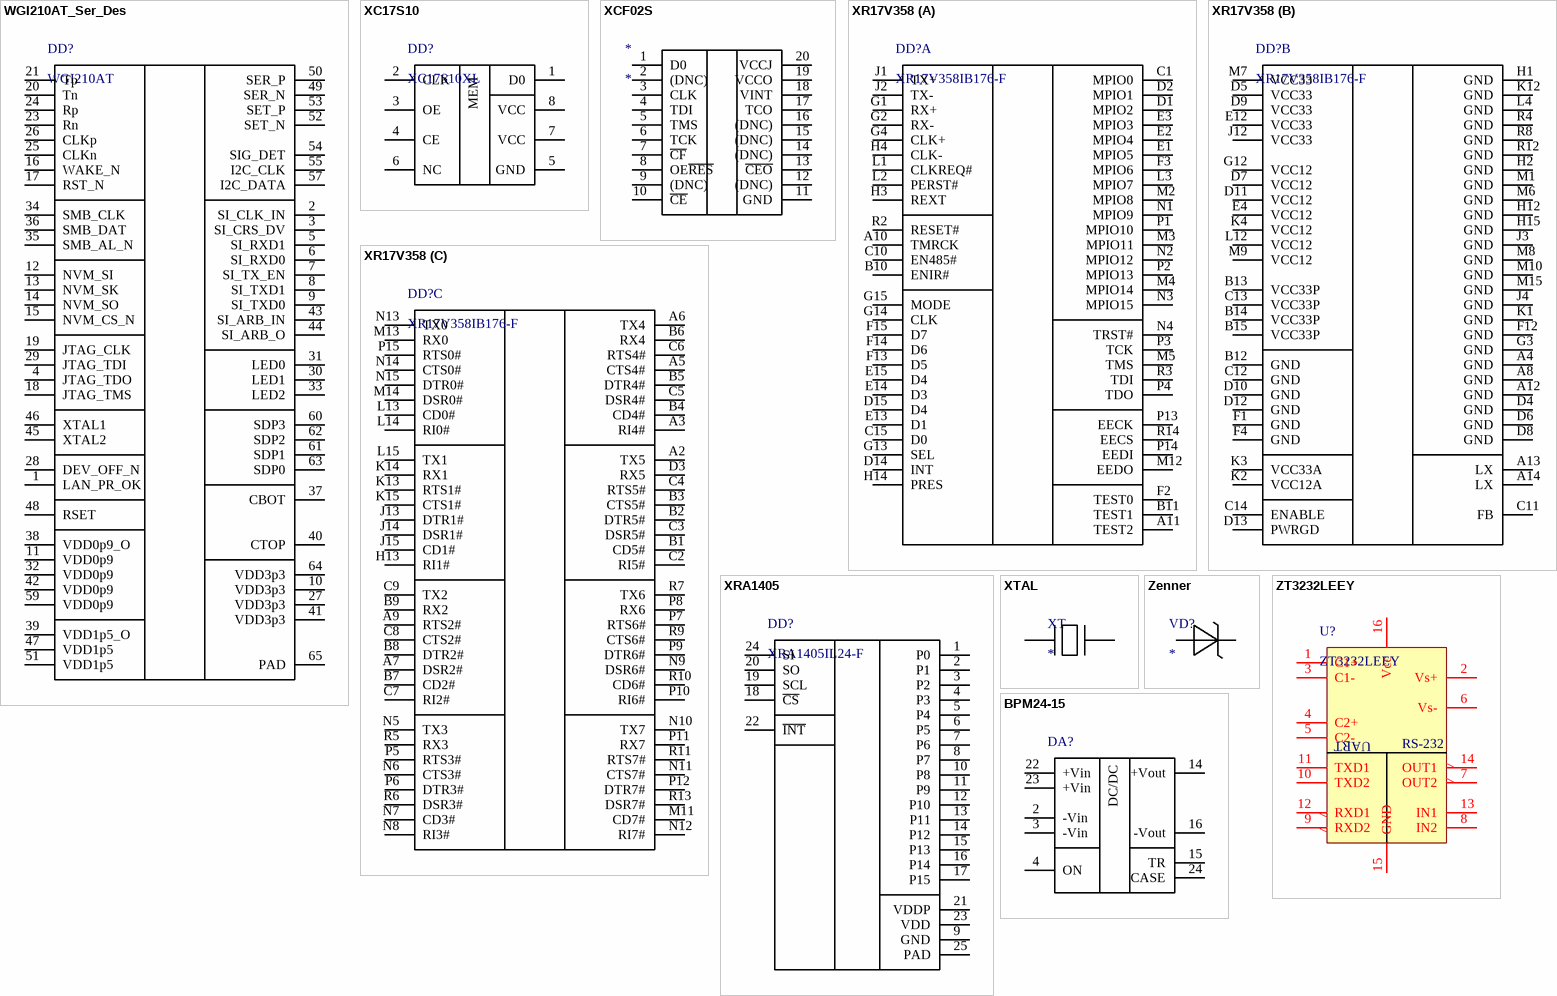
[diagram p35: symbols WGI210AT_Ser_Des to ВРМ24-15]

## WGI210AT_Ser_Des
designator DD?, comment WGI210AT
value: WGI210AT
footprint QFN64 (QFN64 Analog Devices)
pins: 1 LAN_PR_OK, 2 SI_CLK_IN, 3 SI_CRS_DV, 4 JTAG_TDO, 5 SI_RXD1, 6 SI_RXD0, 7 SI_TX_EN, 8 SI_TXD1, 9 SI_TXD0, 10 VDD3p3, 11 VDD0p9, 12 NVM_SI, 13 NVM_SK, 14 NVM_SO, 15 NVM_CS_N, 16 WAKE_N, 17 RST_N, 18 JTAG_TMS, 19 JTAG_CLK, 20 Tn, 21 Tp, 23 Rn, 24 Rp, 25 CLKn, 26 CLKp, 27 VDD3p3, 28 DEV_OFF_N, 29 JTAG_TDI, 30 LED1, 31 LED0, 32 VDD0p9, 33 LED2, 34 SMB_CLK, 35 SMB_AL_N, 36 SMB_DAT, 37 CBOT, 38 VDD0p9_O, 39 VDD1p5_O, 40 CTOP, 41 VDD3p3, 42 VDD0p9, 43 SI_ARB_IN, 44 SI_ARB_O, 45 XTAL2, 46 XTAL1, 47 VDD1p5, 48 RSET, 49 SER_N, 50 SER_P, 51 VDD1p5, 52 SET_N, 53 SET_P, 54 SIG_DET, 55 I2C_CLK, 57 I2C_DATA, 59 VDD0p9, 60 SDP3, 61 SDP1, 62 SDP2, 63 SDP0, 64 VDD3p3, 65 PAD

## XC17S10
designator DD?, comment XC17S10XL
Spartan/XL Family One-Time Programmable Configuration PROMs; value: XC17S10XL
footprint SOIC8
pins: 1 D0, 2 CLK, 3 OE, 4 CE, 5 GND, 6 NC, 7 VCC, 8 VCC
text: MEM

## XCF02S
designator *
pins: 1 D0, 2 (DNC), 3 CLK, 4 TDI, 5 TMS, 6 TCK, 7 ~{CF}, 8 OE~{RES}, 9 (DNC), 10 ~{CE}, 11 GND, 12 (DNC), 13 ~{CEO}, 14 (DNC), 15 (DNC), 16 (DNC), 17 TCO, 18 VINT, 19 VCCO, 20 VCCJ

## XR17V358
designator DD?, comment XR17V358IB176-F
value: XR17V358IB176-F
part A pins: A10 TMRCK, A11 TEST2, B10 ENIR#, B11 TEST1, C1 MPIO0, C10 EN485#, C15 D0, D1 MPIO2, D2 MPIO1, D14 INT, D15 D4, E1 MPIO5, E2 MPIO4, E3 MPIO3, E13 D1, E14 D3, E15 D4, F2 TEST0, F3 MPIO6, F13 D5, F14 D6, F15 D7, G1 RX+, G2 RX-, G4 CLK+, G13 SEL, G14 CLK, G15 MODE, H3 REXT, H4 CLK-, H14 PRES, J1 TX+, J2 TX-, L1 CLKREQ#, L2 PERST#, L3 MPIO7, M2 MPIO8, M3 MPIO11, M4 MPIO14, M5 TMS, M12 EEDO, N1 MPIO9, N2 MPIO12, N3 MPIO15, N4 TRST#, P1 MPIO10, P2 MPIO13, P3 TCK, P4 TDO, P13 EECK, P14 EEDI, R2 RESET#, R3 TDI, R14 EECS
part B pins: A4 GND, A8 GND, A12 GND, A13 LX, A14 LX, B12 GND, B13 VCC33P, B14 VCC33P, B15 VCC33P, C11 FB, C12 GND, C13 VCC33P, C14 ENABLE, D4 GND, D5 VCC33, D6 GND, D7 VCC12, D8 GND, D9 VCC33, D10 GND, D11 VCC12, D12 GND, D13 PWRGD, E4 VCC12, E12 VCC33, F1 GND, F4 GND, F12 GND, G3 GND, G12 VCC12, H1 GND, H2 GND, H12 GND, H15 GND, J3 GND, J4 GND, J12 VCC33, K1 GND, K2 VCC12A, K3 VCC33A, K4 VCC12, K12 GND, L4 GND, L12 VCC12, M1 GND, M6 GND, M7 VCC33, M8 GND, M9 VCC12, M10 GND, M15 GND, R4 GND, R8 GND, R12 GND
part C pins: A2 TX5, A3 RI4#, A5 CTS4#, A6 TX4, A7 DSR2#, A9 RTS2#, B1 CD5#, B2 DTR5#, B3 CTS5#, B4 CD4#, B5 DTR4#, B6 RX4, B7 CD2#, B8 DTR2#, B9 RX2, C2 RI5#, C3 DSR5#, C4 RTS5#, C5 DSR4#, C6 RTS4#, C7 RI2#, C8 CTS2#, C9 TX2, D3 RX5, H13 RI1#, J13 DTR1#, J14 DSR1#, J15 CD1#, K13 RTS1#, K14 RX1, K15 CTS1#, L13 CD0#, L14 RI0#, L15 TX1, M11 CD7#, M13 RX0, M14 DSR0#, N5 TX3, N6 CTS3#, N7 CD3#, N8 RI3#, N9 DSR6#, N10 TX7, N11 CTS7#, N12 RI7#, N13 TX0, N14 CTS0#, N15 DTR0#, P5 RTS3#, P6 DTR3#, P7 RTS6#, P8 RX6, P9 DTR6#, P10 RI6#, P11 RX7, P12 DTR7#, P15 RTS0#, R5 RX3, R6 DSR3#, R7 TX6, R9 CTS6#, R10 CD6#, R11 RTS7#, R13 DSR7#

## XRA1405
designator DD?, comment XRA1405IL24-F
value: XRA1405IL24-F
footprint QFN24 (Footprint not found)
pins: 1 P0, 2 P1, 3 P2, 4 P3, 5 P4, 6 P5, 7 P6, 8 P7, 9 GND, 10 P8, 11 P9, 12 P10, 13 P11, 14 P12, 15 P13, 16 P14, 17 P15, 18 ~{CS}, 19 SCL, 20 SO, 21 VDDP, 22 ~{INT}, 23 VDD, 24 SI, 25 PAD

## XTAL
designator XT
Кварцевый резонатор
footprint HC-49SM (XTAL smd package)
footprint HC-49 (XTAL smd package)
footprint HC-49U/S (XTAL thru-hole package)
pins: 1, 2

## Zenner
designator VD?
Стабилитрон; value: *
footprint SOT-23_diode
footprint SMA DIOD
pins: 1 A, 2 K

## ZT3232LEEY
designator U?
value: ZT3232LEEY
footprint SSOP-16
pins: 1 C1+, 2 Vs+, 3 C1-, 4 C2+, 5 C2-, 6 Vs-, 7 OUT2, 8 IN2, 9 RXD2, 10 TXD2, 11 TXD1, 12 RXD1, 13 IN1, 14 OUT1, 15 GND, 16 Vcc
text: UART; RS-232

## ВРМ24-15
designator DA?
DC/DC Converters TEL 2 Series, 2 Watt; rus_value: ВРМ24-15
footprint ВРМ24-15
pins: 2 -Vin, 3 -Vin, 4 ON, 14 +Vout, 15 TR, 16 -Vout, 22 +Vin, 23 +Vin, 24 CASE
text: DC/DC

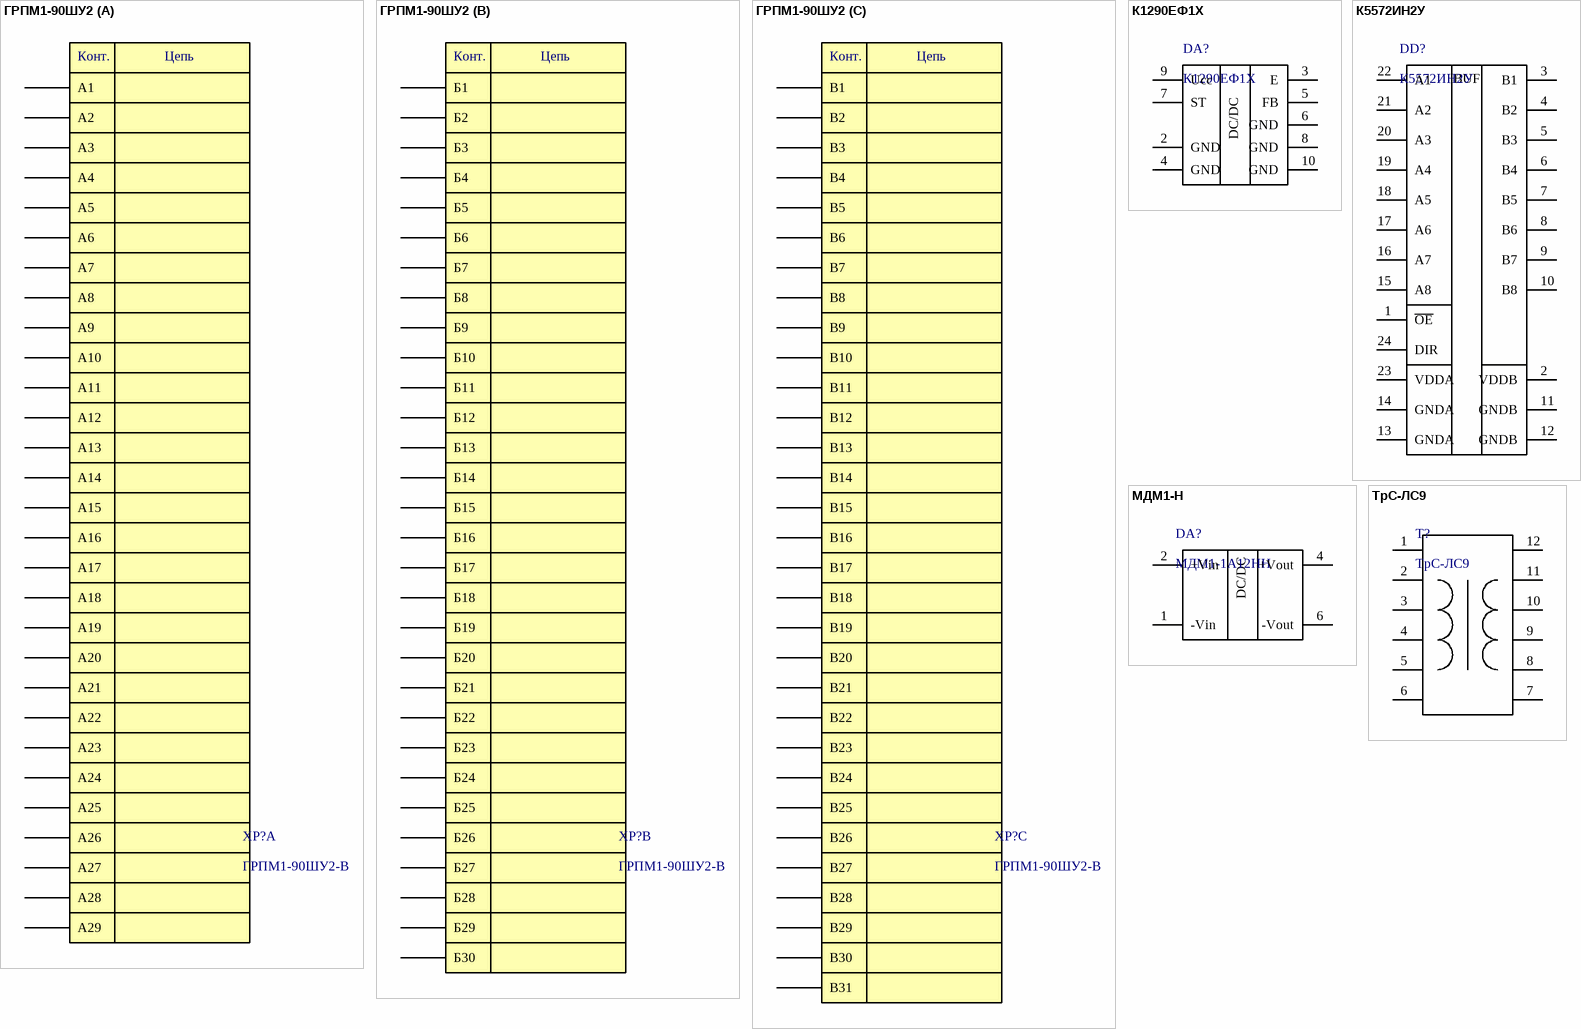
[diagram p36: symbols ГРПМ1-90ШУ2 to ТрС-ЛС9]

## ГРПМ1-90ШУ2
designator XP?, comment ГРПМ1-90ШУ2-В
value: ГРПМ1-90ШУ2-В
footprint DIN 41612. 09 03 178 7901
part A pins: A1, A2, A3, A4, A5, A6, A7, A8, A9, A10, A11, A12, A13, A14, A15, A16, A17, A18, A19, A20, A21, A22, A23, A24, A25, A26, A27, A28, A29
part B pins: Б1, Б2, Б3, Б4, Б5, Б6, Б8 Б7, Б8, Б9, Б10, Б11, Б12, Б13, Б14, Б15, Б16, Б17, Б18, Б19, Б20, Б21, Б22, Б23, Б24, Б25, Б26, Б27, Б28, Б29, Б30
part C pins: В1, В2, В3, В4, В5, В6, В7, В8, В9, В10, В11, В12, В13, В14, В15, В16, В17, В18, В19, В20, В21, В22, В23, В24, В25, В26, В27, В28, В29, В30, В31
part A text: Конт.; Цепь
part B text: Конт.; Цепь
part C text: Конт.; Цепь

## К1290ЕФ1Х
designator DA?
ИМПУЛЬСНЫЙ  СТАБИЛИЗАТОР  НАПРЯЖЕНИЯ; value: К1290ЕФ1Х
pins: 2 GND, 3 E, 4 GND, 5 FB, 6 GND, 7 ST, 8 GND, 9 Ucc, 10 GND
text: DC/DC

## К5572ИН2У
designator DD?
Level shifter; value: К5572ИН2У
footprint Н06.24-1В (Footprint not found)
pins: 1 ~{OE}, 2 VDDB, 3 B1, 4 B2, 5 B3, 6 B4, 7 B5, 8 B6, 9 B7, 10 B8, 11 GNDB, 12 GNDB, 13 GNDA, 14 GNDA, 15 A8, 16 A7, 17 A6, 18 A5, 19 A4, 20 A3, 21 A2, 22 A1, 23 VDDA, 24 DIR
text: BUF

## МДМ1-Н
designator DA?, comment МДМ1-1А12НН
DC/DC преобразователи 1 Вт; value: МДМ1-1А12НН
pins: 1 -Vin, 2 +Vin, 4 +Vout, 6 -Vout
text: DC/DC

## ТрС-ЛС9
designator T?
value: ТрС-ЛС9
pins: 1, 2, 3, 4, 5, 6, 7, 8, 9, 10, 11, 12